# Altium integrated library Renesas Microcontroller H8.IntLib: 489 symbols (part 9 of 25)
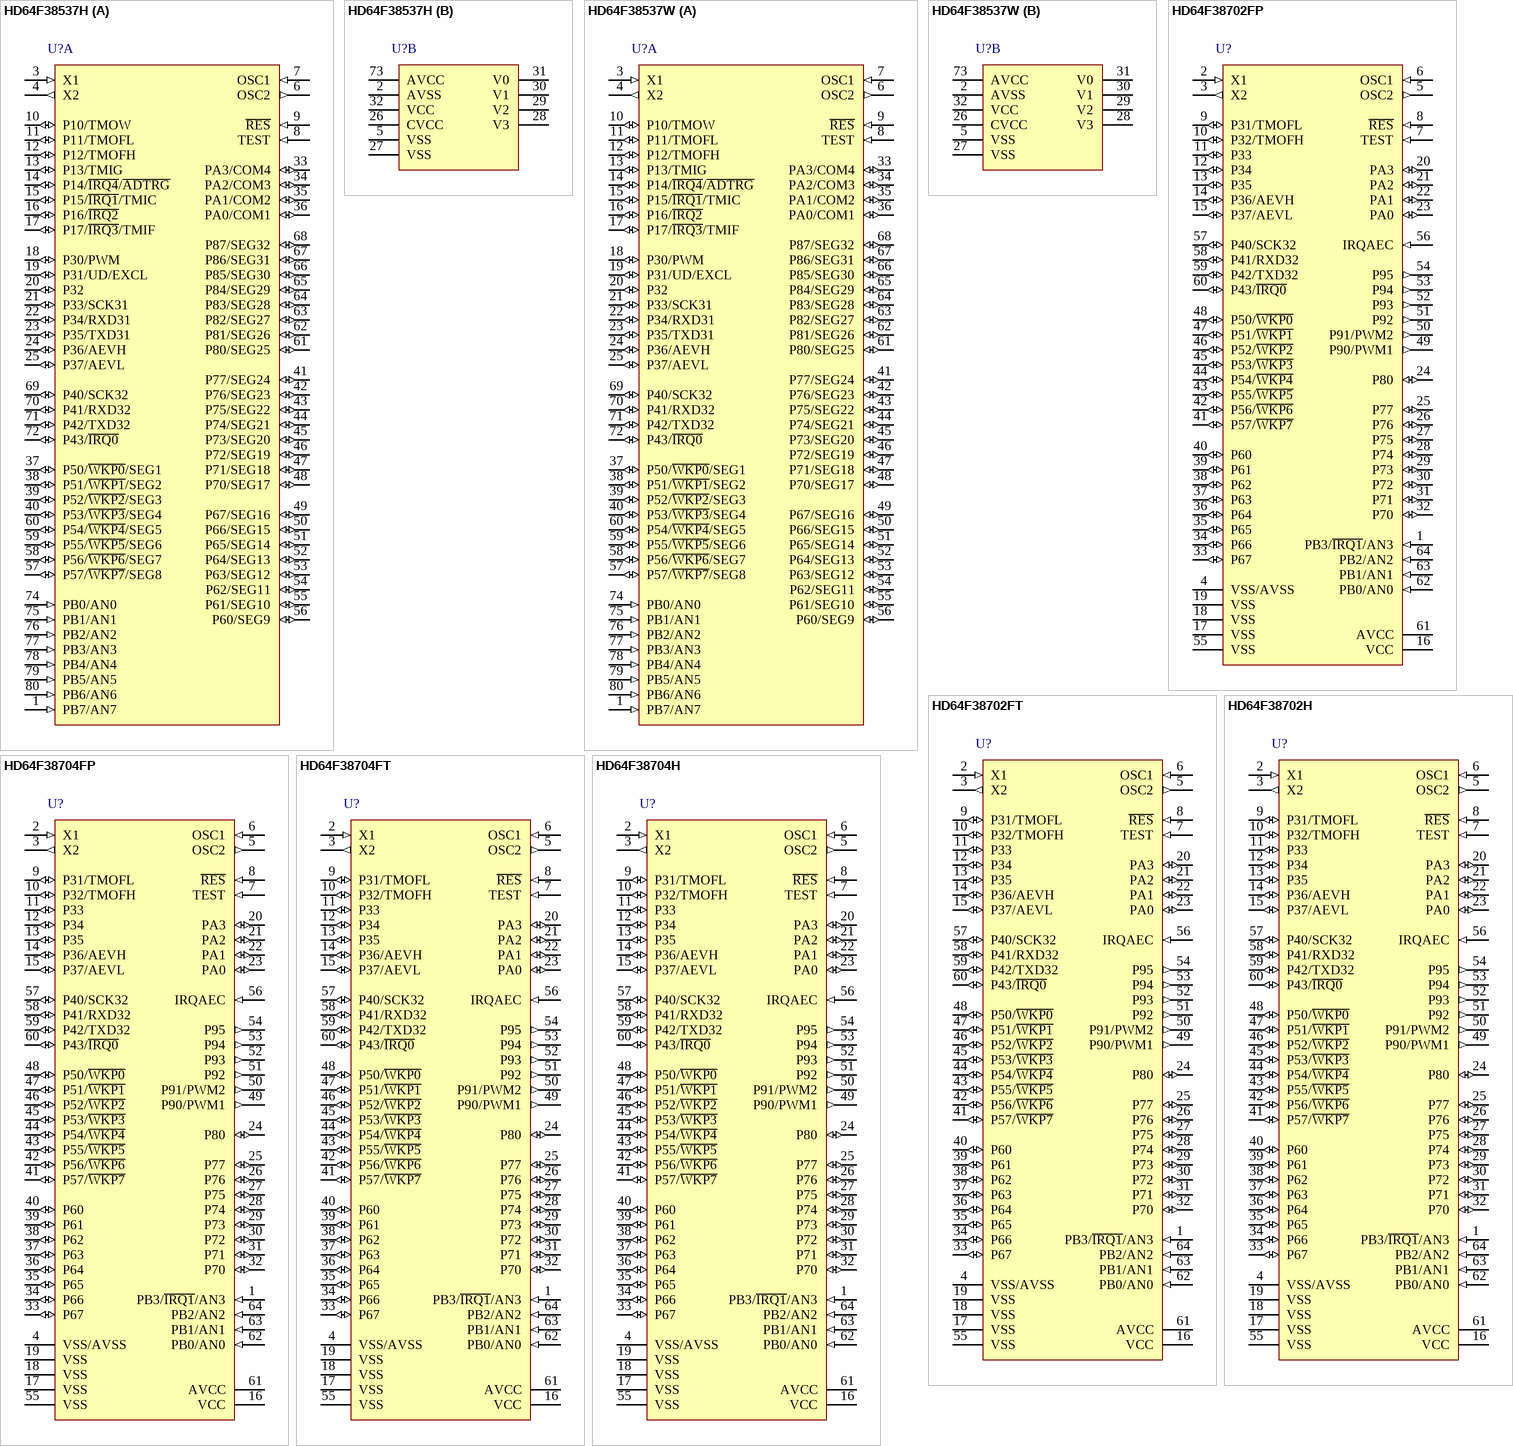
[diagram p96: symbols HD64F38537H to HD64F38704H]

## HD64F38537W
designator U?
H8 Family 32/16-bit CISC, H8/300H Super Low Power, 60K ROM, 2K RAM, 8MHz, 2.7 to 5.5V, 80-Pin QFP; Published: 28-Aug-2009; DatasheetVersion: Rev.1.00, May-2008; PackageVersion: Sep-2005; PackageReference: PTQP0080KC-A; Publisher: Altium Limited; PackageDescription: 80-Pin Plastic Thin Quad Flat Pack, 12 x 12 x 1.0 mm Body, 0.5 mm Pitch; Code_JEITA: P-TQFP80-12x12-0.50; ComponentLink1Description: Manufacturer Link; ComponentLink1URL: http://sg.renesas.com/fmwk.jsp?cnt=h8_family_landing.jsp&fp=/products/mpumcu/h8_family/; ComponentLink2Description: Datasheet; ComponentLink2URL: http://documentation.renesas.com/eng/products/mpumcu/rej09b0436_h8_38537hm.pdf; ComponentLink3Description: Packaging Specification; ComponentLink3URL: http://sg.renesas.com/media/products/common_info/package/pdf/ic/code/ptqp0080kc_a.pdf
footprint PTQP0080KC-A_N (Thin QFP, 80-Leads, Body 12x12mm, Pitch 0.5mm, IPC Medium Density)
footprint PTQP0080KC-A_L (Thin QFP, 80-Leads, Body 12x12mm, Pitch 0.5mm, IPC High Density)
footprint PTQP0080KC-A_M (Thin QFP, 80-Leads, Body 12x12mm, Pitch 0.5mm, IPC Low Density)
part A pins: 1 PB7/AN7 (in), 3 X1 (in), 4 X2 (out), 6 OSC2 (out), 7 OSC1 (in), 8 TEST (in), 9 ~{RES} (in), 10 P10/TMOW (io), 11 P11/TMOFL (io), 12 P12/TMOFH (io), 13 P13/TMIG (io), 14 P14/~{IRQ4}/~{ADTRG} (io), 15 P15/~{IRQ1}/TMIC (io), 16 P16/~{IRQ2} (io), 17 P17/~{IRQ3}/TMIF (io), 18 P30/PWM (io), 19 P31/UD/EXCL (io), 20 P32 (io), 21 P33/SCK31 (io), 22 P34/RXD31 (io), 23 P35/TXD31 (io), 24 P36/AEVH (io), 25 P37/AEVL (io), 33 PA3/COM4 (io), 34 PA2/COM3 (io), 35 PA1/COM2 (io), 36 PA0/COM1 (io), 37 P50/~{WKP0}/SEG1 (io), 38 P51/~{WKP1}/SEG2 (io), 39 P52/~{WKP2}/SEG3 (io), 40 P53/~{WKP3}/SEG4 (io), 41 P77/SEG24 (io), 42 P76/SEG23 (io), 43 P75/SEG22 (io), 44 P74/SEG21 (io), 45 P73/SEG20 (io), 46 P72/SEG19 (io), 47 P71/SEG18 (io), 48 P70/SEG17 (io), 49 P67/SEG16 (io), 50 P66/SEG15 (io), 51 P65/SEG14 (io), 52 P64/SEG13 (io), 53 P63/SEG12 (io), 54 P62/SEG11 (io), 55 P61/SEG10 (io), 56 P60/SEG9 (io), 57 P57/~{WKP7}/SEG8 (io), 58 P56/~{WKP6}/SEG7 (io), 59 P55/~{WKP5}/SEG6 (io), 60 P54/~{WKP4}/SEG5 (io), 61 P80/SEG25 (io), 62 P81/SEG26 (io), 63 P82/SEG27 (io), 64 P83/SEG28 (io), 65 P84/SEG29 (io), 66 P85/SEG30 (io), 67 P86/SEG31 (io), 68 P87/SEG32 (io), 69 P40/SCK32 (io), 70 P41/RXD32 (io), 71 P42/TXD32 (io), 72 P43/~{IRQ0} (io), 74 PB0/AN0 (in), 75 PB1/AN1 (in), 76 PB2/AN2 (in), 77 PB3/AN3 (in), 78 PB4/AN4 (in), 79 PB5/AN5 (in), 80 PB6/AN6 (in)
part B pins: 2 AVSS (power), 5 VSS (power), 26 CVCC (power), 27 VSS (power), 28 V3 (power), 29 V2 (power), 30 V1 (power), 31 V0 (power), 32 VCC (power), 73 AVCC (power)

## HD64F38702FP
designator U?
H8 Family 8-bit MCU, H8/300H Super Low Power, 16K ROM, 1K RAM, 2MHz, 2.2 to 3.6V, 64-Pin QFP; Published: 28-Aug-2009; DatasheetVersion: Rev.1.00, Dec-2007; PackageVersion: Sep-2005; PackageReference: PLQP0064KC-A; Publisher: Altium Limited; PackageDescription: 64-Pin Plastic Low Profile QFP, 10 x 10 x 1.45 mm Body, 0.5 mm Pitch; Code_JEITA: P-LQFP64-10x10-0.50; Code_IPC: SQFP50P1200X1200-64; ComponentLink1Description: Manufacturer Link; ComponentLink1URL: http://sg.renesas.com/fmwk.jsp?cnt=h8_family_landing.jsp&fp=/products/mpumcu/h8_family/; ComponentLink2Description: Datasheet; ComponentLink2URL: http://documentation.renesas.com/eng/products/mpumcu/rej09b0430_h838704hm.pdf; ComponentLink3Description: Packaging Specification; ComponentLink3URL: http://sg.renesas.com/media/products/common_info/package/pdf/ic/code/plqp0064kc_a.pdf
footprint PLQP0064KC-A_N (Shrink QFP, 64-Leads, Body 10x10mm, Pitch 0.5mm, IPC Medium Density)
footprint PLQP0064KC-A_L (Shrink QFP, 64-Leads, Body 10x10mm, Pitch 0.5mm, IPC High Density)
footprint PLQP0064KC-A_M (Shrink QFP, 64-Leads, Body 10x10mm, Pitch 0.5mm, IPC Low Density)
pins: 1 PB3/~{IRQ1}/AN3 (in), 2 X1 (in), 3 X2 (out), 4 VSS/AVSS (power), 5 OSC2 (out), 6 OSC1 (in), 7 TEST (in), 8 ~{RES} (in), 9 P31/TMOFL (io), 10 P32/TMOFH (io), 11 P33 (io), 12 P34 (io), 13 P35 (io), 14 P36/AEVH (io), 15 P37/AEVL (io), 16 VCC (power), 17 VSS (power), 18 VSS (power), 19 VSS (power), 20 PA3 (io), 21 PA2 (io), 22 PA1 (io), 23 PA0 (io), 24 P80 (io), 25 P77 (io), 26 P76 (io), 27 P75 (io), 28 P74 (io), 29 P73 (io), 30 P72 (io), 31 P71 (io), 32 P70 (io), 33 P67 (io), 34 P66 (io), 35 P65 (io), 36 P64 (io), 37 P63 (io), 38 P62 (io), 39 P61 (io), 40 P60 (io), 41 P57/~{WKP7} (io), 42 P56/~{WKP6} (io), 43 P55/~{WKP5} (io), 44 P54/~{WKP4} (io), 45 P53/~{WKP3} (io), 46 P52/~{WKP2} (io), 47 P51/~{WKP1} (io), 48 P50/~{WKP0} (io), 49 P90/PWM1 (out), 50 P91/PWM2 (out), 51 P92 (out), 52 P93 (out), 53 P94 (out), 54 P95 (out), 55 VSS (power), 56 IRQAEC (in), 57 P40/SCK32 (io), 58 P41/RXD32 (io), 59 P42/TXD32 (io), 60 P43/~{IRQ0} (io), 61 AVCC (power), 62 PB0/AN0 (in), 63 PB1/AN1 (in), 64 PB2/AN2 (in)

## HD64F38702FT
designator U?
H8 Family 8-bit MCU, H8/300H Super Low Power, 16K ROM, 1K RAM, 2MHz, 2.2 to 3.6V, 64-Pin QFN; Published: 28-Aug-2009; DatasheetVersion: Rev.1.00, Dec-2007; PackageVersion: Jun-2008; PackageReference: PVQN0064LB-A; Publisher: Altium Limited; PackageDescription: 64-Pin Plastic Very Thin QFN, 8 x 8 X 0.89 mm Body, 0.4 mm Pitch; Code_JEITA: P-VQFN64-8x8-0.40; ComponentLink1Description: Manufacturer Link; ComponentLink1URL: http://sg.renesas.com/fmwk.jsp?cnt=h8_family_landing.jsp&fp=/products/mpumcu/h8_family/; ComponentLink2Description: Datasheet; ComponentLink2URL: http://documentation.renesas.com/eng/products/mpumcu/rej09b0430_h838704hm.pdf; ComponentLink3Description: Packaging Specification; ComponentLink3URL: http://sg.renesas.com/media/products/common_info/package/pdf/ic/code/pvqn0064lb_a.pdf
footprint PVQN0064LB-A_N (QFN, 64-Leads, Body 8x8 mm, Pitch 0.4mm, IPC Medium Density)
footprint PVQN0064LB-A_L (QFN, 64-Leads, Body 8x8 mm, Pitch 0.4mm, IPC High Density)
footprint PVQN0064LB-A_M (QFN, 64-Leads, Body 8x8 mm, Pitch 0.4mm, IPC Low Density)
pins: 1 PB3/~{IRQ1}/AN3 (in), 2 X1 (in), 3 X2 (out), 4 VSS/AVSS (power), 5 OSC2 (out), 6 OSC1 (in), 7 TEST (in), 8 ~{RES} (in), 9 P31/TMOFL (io), 10 P32/TMOFH (io), 11 P33 (io), 12 P34 (io), 13 P35 (io), 14 P36/AEVH (io), 15 P37/AEVL (io), 16 VCC (power), 17 VSS (power), 18 VSS (power), 19 VSS (power), 20 PA3 (io), 21 PA2 (io), 22 PA1 (io), 23 PA0 (io), 24 P80 (io), 25 P77 (io), 26 P76 (io), 27 P75 (io), 28 P74 (io), 29 P73 (io), 30 P72 (io), 31 P71 (io), 32 P70 (io), 33 P67 (io), 34 P66 (io), 35 P65 (io), 36 P64 (io), 37 P63 (io), 38 P62 (io), 39 P61 (io), 40 P60 (io), 41 P57/~{WKP7} (io), 42 P56/~{WKP6} (io), 43 P55/~{WKP5} (io), 44 P54/~{WKP4} (io), 45 P53/~{WKP3} (io), 46 P52/~{WKP2} (io), 47 P51/~{WKP1} (io), 48 P50/~{WKP0} (io), 49 P90/PWM1 (out), 50 P91/PWM2 (out), 51 P92 (out), 52 P93 (out), 53 P94 (out), 54 P95 (out), 55 VSS (power), 56 IRQAEC (in), 57 P40/SCK32 (io), 58 P41/RXD32 (io), 59 P42/TXD32 (io), 60 P43/~{IRQ0} (io), 61 AVCC (power), 62 PB0/AN0 (in), 63 PB1/AN1 (in), 64 PB2/AN2 (in)

## HD64F38702H
designator U?
H8 Family 8-bit MCU, H8/300H Super Low Power, 16K ROM, 1K RAM, 2MHz, 2.2 to 3.6V, 64-Pin QFP; Published: 28-Aug-2009; DatasheetVersion: Rev.1.00, Dec-2007; PackageVersion: Sep-2005; PackageReference: PRQP0064GB-A; Publisher: Altium Limited; PackageDescription: 64-Pin Plastic Quad Flat Pack, 14 x 14 x 2.7 mm Body, 0.8 mm Pitch; Code_JEITA: P-QFP64-14x14-0.80; ComponentLink1Description: Manufacturer Link; ComponentLink1URL: http://sg.renesas.com/fmwk.jsp?cnt=h8_family_landing.jsp&fp=/products/mpumcu/h8_family/; ComponentLink2Description: Datasheet; ComponentLink2URL: http://documentation.renesas.com/eng/products/mpumcu/rej09b0430_h838704hm.pdf; ComponentLink3Description: Packaging Specification; ComponentLink3URL: http://sg.renesas.com/media/products/common_info/package/pdf/ic/code/prqp0064gb_a.pdf
footprint PRQP0064GB-A_N (QFP, 64-Leads, Body 14x14mm, Pitch 0.8mm, IPC Medium Density)
footprint PRQP0064GB-A_L (QFP, 64-Leads, Body 14x14mm, Pitch 0.8mm, IPC High Density)
footprint PRQP0064GB-A_M (QFP, 64-Leads, Body 14x14mm, Pitch 0.8mm, IPC Low Density)
pins: 1 PB3/~{IRQ1}/AN3 (in), 2 X1 (in), 3 X2 (out), 4 VSS/AVSS (power), 5 OSC2 (out), 6 OSC1 (in), 7 TEST (in), 8 ~{RES} (in), 9 P31/TMOFL (io), 10 P32/TMOFH (io), 11 P33 (io), 12 P34 (io), 13 P35 (io), 14 P36/AEVH (io), 15 P37/AEVL (io), 16 VCC (power), 17 VSS (power), 18 VSS (power), 19 VSS (power), 20 PA3 (io), 21 PA2 (io), 22 PA1 (io), 23 PA0 (io), 24 P80 (io), 25 P77 (io), 26 P76 (io), 27 P75 (io), 28 P74 (io), 29 P73 (io), 30 P72 (io), 31 P71 (io), 32 P70 (io), 33 P67 (io), 34 P66 (io), 35 P65 (io), 36 P64 (io), 37 P63 (io), 38 P62 (io), 39 P61 (io), 40 P60 (io), 41 P57/~{WKP7} (io), 42 P56/~{WKP6} (io), 43 P55/~{WKP5} (io), 44 P54/~{WKP4} (io), 45 P53/~{WKP3} (io), 46 P52/~{WKP2} (io), 47 P51/~{WKP1} (io), 48 P50/~{WKP0} (io), 49 P90/PWM1 (out), 50 P91/PWM2 (out), 51 P92 (out), 52 P93 (out), 53 P94 (out), 54 P95 (out), 55 VSS (power), 56 IRQAEC (in), 57 P40/SCK32 (io), 58 P41/RXD32 (io), 59 P42/TXD32 (io), 60 P43/~{IRQ0} (io), 61 AVCC (power), 62 PB0/AN0 (in), 63 PB1/AN1 (in), 64 PB2/AN2 (in)

## HD64F38704FP
designator U?
H8 Family 8-bit MCU, H8/300H Super Low Power, 32K ROM, 1K RAM, 2MHz, 2.2 to 3.6V, 64-Pin QFP; Published: 28-Aug-2009; DatasheetVersion: Rev.1.00, Dec-2007; PackageVersion: Sep-2005; PackageReference: PLQP0064KC-A; Publisher: Altium Limited; PackageDescription: 64-Pin Plastic Low Profile QFP, 10 x 10 x 1.45 mm Body, 0.5 mm Pitch; Code_JEITA: P-LQFP64-10x10-0.50; Code_IPC: SQFP50P1200X1200-64; ComponentLink1Description: Manufacturer Link; ComponentLink1URL: http://sg.renesas.com/fmwk.jsp?cnt=h8_family_landing.jsp&fp=/products/mpumcu/h8_family/; ComponentLink2Description: Datasheet; ComponentLink2URL: http://documentation.renesas.com/eng/products/mpumcu/rej09b0430_h838704hm.pdf; ComponentLink3Description: Packaging Specification; ComponentLink3URL: http://sg.renesas.com/media/products/common_info/package/pdf/ic/code/plqp0064kc_a.pdf
footprint PLQP0064KC-A_N (Shrink QFP, 64-Leads, Body 10x10mm, Pitch 0.5mm, IPC Medium Density)
footprint PLQP0064KC-A_L (Shrink QFP, 64-Leads, Body 10x10mm, Pitch 0.5mm, IPC High Density)
footprint PLQP0064KC-A_M (Shrink QFP, 64-Leads, Body 10x10mm, Pitch 0.5mm, IPC Low Density)
pins: 1 PB3/~{IRQ1}/AN3 (in), 2 X1 (in), 3 X2 (out), 4 VSS/AVSS (power), 5 OSC2 (out), 6 OSC1 (in), 7 TEST (in), 8 ~{RES} (in), 9 P31/TMOFL (io), 10 P32/TMOFH (io), 11 P33 (io), 12 P34 (io), 13 P35 (io), 14 P36/AEVH (io), 15 P37/AEVL (io), 16 VCC (power), 17 VSS (power), 18 VSS (power), 19 VSS (power), 20 PA3 (io), 21 PA2 (io), 22 PA1 (io), 23 PA0 (io), 24 P80 (io), 25 P77 (io), 26 P76 (io), 27 P75 (io), 28 P74 (io), 29 P73 (io), 30 P72 (io), 31 P71 (io), 32 P70 (io), 33 P67 (io), 34 P66 (io), 35 P65 (io), 36 P64 (io), 37 P63 (io), 38 P62 (io), 39 P61 (io), 40 P60 (io), 41 P57/~{WKP7} (io), 42 P56/~{WKP6} (io), 43 P55/~{WKP5} (io), 44 P54/~{WKP4} (io), 45 P53/~{WKP3} (io), 46 P52/~{WKP2} (io), 47 P51/~{WKP1} (io), 48 P50/~{WKP0} (io), 49 P90/PWM1 (out), 50 P91/PWM2 (out), 51 P92 (out), 52 P93 (out), 53 P94 (out), 54 P95 (out), 55 VSS (power), 56 IRQAEC (in), 57 P40/SCK32 (io), 58 P41/RXD32 (io), 59 P42/TXD32 (io), 60 P43/~{IRQ0} (io), 61 AVCC (power), 62 PB0/AN0 (in), 63 PB1/AN1 (in), 64 PB2/AN2 (in)

## HD64F38704FT
designator U?
H8 Family 8-bit MCU, H8/300H Super Low Power, 32K ROM, 1K RAM, 2MHz, 2.2 to 3.6V, 64-Pin QFN; Published: 28-Aug-2009; DatasheetVersion: Rev.1.00, Dec-2007; PackageVersion: Jun-2008; PackageReference: PVQN0064LB-A; Publisher: Altium Limited; PackageDescription: 64-Pin Plastic Very Thin QFN, 8 x 8 X 0.89 mm Body, 0.4 mm Pitch; Code_JEITA: P-VQFN64-8x8-0.40; ComponentLink1Description: Manufacturer Link; ComponentLink1URL: http://sg.renesas.com/fmwk.jsp?cnt=h8_family_landing.jsp&fp=/products/mpumcu/h8_family/; ComponentLink2Description: Datasheet; ComponentLink2URL: http://documentation.renesas.com/eng/products/mpumcu/rej09b0430_h838704hm.pdf; ComponentLink3Description: Packaging Specification; ComponentLink3URL: http://sg.renesas.com/media/products/common_info/package/pdf/ic/code/pvqn0064lb_a.pdf
footprint PVQN0064LB-A_N (QFN, 64-Leads, Body 8x8 mm, Pitch 0.4mm, IPC Medium Density)
footprint PVQN0064LB-A_L (QFN, 64-Leads, Body 8x8 mm, Pitch 0.4mm, IPC High Density)
footprint PVQN0064LB-A_M (QFN, 64-Leads, Body 8x8 mm, Pitch 0.4mm, IPC Low Density)
pins: 1 PB3/~{IRQ1}/AN3 (in), 2 X1 (in), 3 X2 (out), 4 VSS/AVSS (power), 5 OSC2 (out), 6 OSC1 (in), 7 TEST (in), 8 ~{RES} (in), 9 P31/TMOFL (io), 10 P32/TMOFH (io), 11 P33 (io), 12 P34 (io), 13 P35 (io), 14 P36/AEVH (io), 15 P37/AEVL (io), 16 VCC (power), 17 VSS (power), 18 VSS (power), 19 VSS (power), 20 PA3 (io), 21 PA2 (io), 22 PA1 (io), 23 PA0 (io), 24 P80 (io), 25 P77 (io), 26 P76 (io), 27 P75 (io), 28 P74 (io), 29 P73 (io), 30 P72 (io), 31 P71 (io), 32 P70 (io), 33 P67 (io), 34 P66 (io), 35 P65 (io), 36 P64 (io), 37 P63 (io), 38 P62 (io), 39 P61 (io), 40 P60 (io), 41 P57/~{WKP7} (io), 42 P56/~{WKP6} (io), 43 P55/~{WKP5} (io), 44 P54/~{WKP4} (io), 45 P53/~{WKP3} (io), 46 P52/~{WKP2} (io), 47 P51/~{WKP1} (io), 48 P50/~{WKP0} (io), 49 P90/PWM1 (out), 50 P91/PWM2 (out), 51 P92 (out), 52 P93 (out), 53 P94 (out), 54 P95 (out), 55 VSS (power), 56 IRQAEC (in), 57 P40/SCK32 (io), 58 P41/RXD32 (io), 59 P42/TXD32 (io), 60 P43/~{IRQ0} (io), 61 AVCC (power), 62 PB0/AN0 (in), 63 PB1/AN1 (in), 64 PB2/AN2 (in)

## HD64F38704H
designator U?
H8 Family 8-bit MCU, H8/300H Super Low Power, 32K ROM, 1K RAM, 2MHz, 2.2 to 3.6V, 64-Pin QFP; Published: 28-Aug-2009; DatasheetVersion: Rev.1.00, Dec-2007; PackageVersion: Sep-2005; PackageReference: PRQP0064GB-A; Publisher: Altium Limited; PackageDescription: 64-Pin Plastic Quad Flat Pack, 14 x 14 x 2.7 mm Body, 0.8 mm Pitch; Code_JEITA: P-QFP64-14x14-0.80; ComponentLink1Description: Manufacturer Link; ComponentLink1URL: http://sg.renesas.com/fmwk.jsp?cnt=h8_family_landing.jsp&fp=/products/mpumcu/h8_family/; ComponentLink2Description: Datasheet; ComponentLink2URL: http://documentation.renesas.com/eng/products/mpumcu/rej09b0430_h838704hm.pdf; ComponentLink3Description: Packaging Specification; ComponentLink3URL: http://sg.renesas.com/media/products/common_info/package/pdf/ic/code/prqp0064gb_a.pdf
footprint PRQP0064GB-A_N (QFP, 64-Leads, Body 14x14mm, Pitch 0.8mm, IPC Medium Density)
footprint PRQP0064GB-A_L (QFP, 64-Leads, Body 14x14mm, Pitch 0.8mm, IPC High Density)
footprint PRQP0064GB-A_M (QFP, 64-Leads, Body 14x14mm, Pitch 0.8mm, IPC Low Density)
pins: 1 PB3/~{IRQ1}/AN3 (in), 2 X1 (in), 3 X2 (out), 4 VSS/AVSS (power), 5 OSC2 (out), 6 OSC1 (in), 7 TEST (in), 8 ~{RES} (in), 9 P31/TMOFL (io), 10 P32/TMOFH (io), 11 P33 (io), 12 P34 (io), 13 P35 (io), 14 P36/AEVH (io), 15 P37/AEVL (io), 16 VCC (power), 17 VSS (power), 18 VSS (power), 19 VSS (power), 20 PA3 (io), 21 PA2 (io), 22 PA1 (io), 23 PA0 (io), 24 P80 (io), 25 P77 (io), 26 P76 (io), 27 P75 (io), 28 P74 (io), 29 P73 (io), 30 P72 (io), 31 P71 (io), 32 P70 (io), 33 P67 (io), 34 P66 (io), 35 P65 (io), 36 P64 (io), 37 P63 (io), 38 P62 (io), 39 P61 (io), 40 P60 (io), 41 P57/~{WKP7} (io), 42 P56/~{WKP6} (io), 43 P55/~{WKP5} (io), 44 P54/~{WKP4} (io), 45 P53/~{WKP3} (io), 46 P52/~{WKP2} (io), 47 P51/~{WKP1} (io), 48 P50/~{WKP0} (io), 49 P90/PWM1 (out), 50 P91/PWM2 (out), 51 P92 (out), 52 P93 (out), 53 P94 (out), 54 P95 (out), 55 VSS (power), 56 IRQAEC (in), 57 P40/SCK32 (io), 58 P41/RXD32 (io), 59 P42/TXD32 (io), 60 P43/~{IRQ0} (io), 61 AVCC (power), 62 PB0/AN0 (in), 63 PB1/AN1 (in), 64 PB2/AN2 (in)

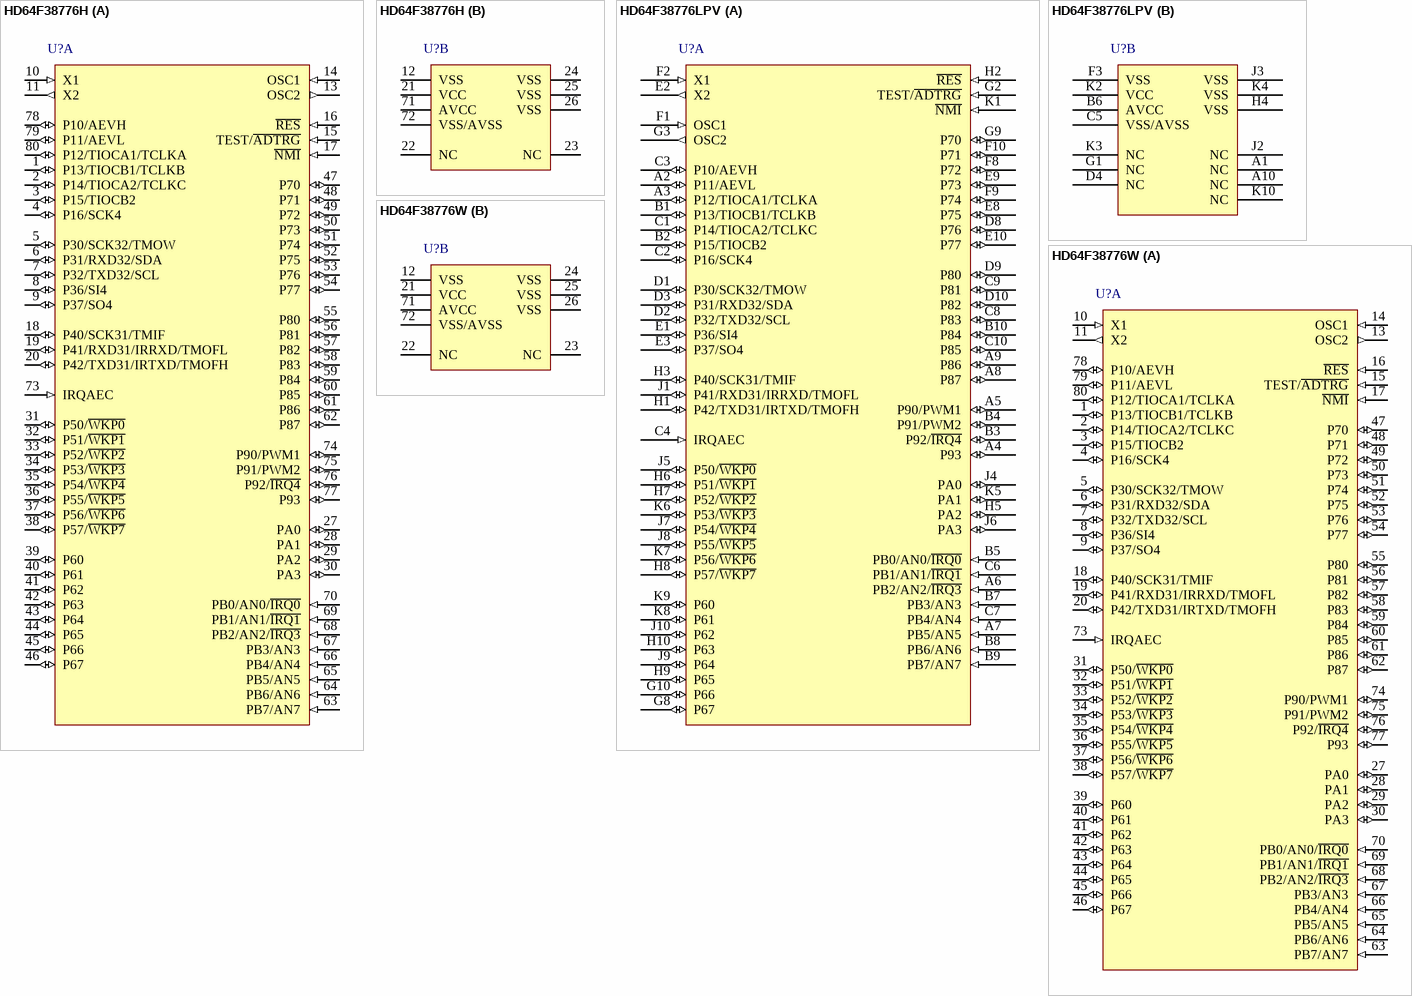
[diagram p29: symbols HD64F38776H to HD64F38776W]

## HD64F38776H
designator U?
H8 Family 32/16-bit CISC, H8/300H Super Low Power, 48K ROM, 2K RAM, 4.2MHz, 1.8 to 3.6V, 80-Pin QFP; Published: 28-Aug-2009; DatasheetVersion: Rev.1.00, Dec-2006; PackageVersion: Sep-2005; PackageReference: PRQP0080JB-A; Publisher: Altium Limited; PackageDescription: 80-Pin Plastic Quad Flat Pack, 14 x 14 x 2.7 mm Body, 0.65 mm Pitch; Code_JEITA: P-QFP80-14x14-0.65; Code_IPC: QFP65P1720X1720-80; ComponentLink1Description: Manufacturer Link; ComponentLink1URL: http://sg.renesas.com/fmwk.jsp?cnt=h8_family_landing.jsp&fp=/products/mpumcu/h8_family/; ComponentLink2Description: Datasheet; ComponentLink2URL: http://documentation.renesas.com/eng/products/mpumcu/rej09b0348_h838776hm.pdf; ComponentLink3Description: Packaging Specification; ComponentLink3URL: http://sg.renesas.com/media/products/common_info/package/pdf/ic/code/prqp0080jb_a.pdf
footprint PRQP0080JB-A_N (QFP, 80-Leads, Body 14x14mm, Pitch 0.65mm, IPC Medium Density)
footprint PRQP0080JB-A_L (QFP, 80-Leads, Body 14x14mm, Pitch 0.65mm, IPC High Density)
footprint PRQP0080JB-A_M (QFP, 80-Leads, Body 14x14mm, Pitch 0.65mm, IPC Low Density)
part A pins: 1 P13/TIOCB1/TCLKB (io), 2 P14/TIOCA2/TCLKC (io), 3 P15/TIOCB2 (io), 4 P16/SCK4 (io), 5 P30/SCK32/TMOW (io), 6 P31/RXD32/SDA (io), 7 P32/TXD32/SCL (io), 8 P36/SI4 (io), 9 P37/SO4 (io), 10 X1 (in), 11 X2 (out), 13 OSC2 (out), 14 OSC1 (in), 15 TEST/~{ADTRG} (in), 16 ~{RES} (in), 17 ~{NMI} (in), 18 P40/SCK31/TMIF (io), 19 P41/RXD31/IRRXD/TMOFL (io), 20 P42/TXD31/IRTXD/TMOFH (io), 27 PA0 (io), 28 PA1 (io), 29 PA2 (io), 30 PA3 (io), 31 P50/~{WKP0} (io), 32 P51/~{WKP1} (io), 33 P52/~{WKP2} (io), 34 P53/~{WKP3} (io), 35 P54/~{WKP4} (io), 36 P55/~{WKP5} (io), 37 P56/~{WKP6} (io), 38 P57/~{WKP7} (io), 39 P60 (io), 40 P61 (io), 41 P62 (io), 42 P63 (io), 43 P64 (io), 44 P65 (io), 45 P66 (io), 46 P67 (io), 47 P70 (io), 48 P71 (io), 49 P72 (io), 50 P73 (io), 51 P74 (io), 52 P75 (io), 53 P76 (io), 54 P77 (io), 55 P80 (io), 56 P81 (io), 57 P82 (io), 58 P83 (io), 59 P84 (io), 60 P85 (io), 61 P86 (io), 62 P87 (io), 63 PB7/AN7 (in), 64 PB6/AN6 (in), 65 PB5/AN5 (in), 66 PB4/AN4 (in), 67 PB3/AN3 (in), 68 PB2/AN2/~{IRQ3} (in), 69 PB1/AN1/~{IRQ1} (in), 70 PB0/AN0/~{IRQ0} (in), 73 IRQAEC (in), 74 P90/PWM1 (io), 75 P91/PWM2 (io), 76 P92/~{IRQ4} (io), 77 P93 (io), 78 P10/AEVH (io), 79 P11/AEVL (io), 80 P12/TIOCA1/TCLKA (io)
part B pins: 12 VSS (power), 21 VCC (power), 22 NC (power), 23 NC (power), 24 VSS (power), 25 VSS (power), 26 VSS (power), 71 AVCC (power), 72 VSS/AVSS (power)

## HD64F38776LPV
designator U?
H8 Family 32/16-bit CISC, H8/300H Super Low Power, 48K ROM, 2K RAM, 4.2MHz, 1.8 to 3.6V, 85-Ball BGA; Published: 28-Aug-2009; DatasheetVersion: Rev.1.00, Dec-2006; PackageVersion: Sep-2005; PackageReference: PTLG0085JA-A; Publisher: Altium Limited; PackageDescription: 85-Ball Plastic Thin Fine-Pitch BGA, 7 x 7 mm Body, 0.65 mm Pitch; Code_JEITA: P-TFLGA85-7x7-0.65; ComponentLink1Description: Manufacturer Link; ComponentLink1URL: http://sg.renesas.com/fmwk.jsp?cnt=h8_family_landing.jsp&fp=/products/mpumcu/h8_family/; ComponentLink2Description: Datasheet; ComponentLink2URL: http://documentation.renesas.com/eng/products/mpumcu/rej09b0348_h838776hm.pdf; ComponentLink3Description: Packaging Specification; ComponentLink3URL: http://sg.renesas.com/media/products/common_info/package/pdf/ic/code/ptlg0085ja_a.pdf
footprint PTLG0085JA-A (BGA, 85-Leads, Body 7x7mm, Pitch 0.65mm)
part A pins: A2 P11/AEVL (io), A3 P12/TIOCA1/TCLKA (io), A4 P93 (io), A5 P90/PWM1 (io), A6 PB2/AN2/~{IRQ3} (in), A7 PB5/AN5 (in), A8 P87 (io), A9 P86 (io), B1 P13/TIOCB1/TCLKB (io), B2 P15/TIOCB2 (io), B3 P92/~{IRQ4} (io), B4 P91/PWM2 (io), B5 PB0/AN0/~{IRQ0} (in), B7 PB3/AN3 (in), B8 PB6/AN6 (in), B9 PB7/AN7 (in), B10 P84 (io), C1 P14/TIOCA2/TCLKC (io), C2 P16/SCK4 (io), C3 P10/AEVH (io), C4 IRQAEC (in), C6 PB1/AN1/~{IRQ1} (in), C7 PB4/AN4 (in), C8 P83 (io), C9 P81 (io), C10 P85 (io), D1 P30/SCK32/TMOW (io), D2 P32/TXD32/SCL (io), D3 P31/RXD32/SDA (io), D8 P76 (io), D9 P80 (io), D10 P82 (io), E1 P36/SI4 (io), E2 X2 (out), E3 P37/SO4 (io), E8 P75 (io), E9 P73 (io), E10 P77 (io), F1 OSC1 (in), F2 X1 (in), F8 P72 (io), F9 P74 (io), F10 P71 (io), G2 TEST/~{ADTRG} (in), G3 OSC2 (out), G8 P67 (io), G9 P70 (io), G10 P66 (io), H1 P42/TXD31/IRTXD/TMOFH (io), H2 ~{RES} (in), H3 P40/SCK31/TMIF (io), H5 PA2 (io), H6 P51/~{WKP1} (io), H7 P52/~{WKP2} (io), H8 P57/~{WKP7} (io), H9 P65 (io), H10 P63 (io), J1 P41/RXD31/IRRXD/TMOFL (io), J4 PA0 (io), J5 P50/~{WKP0} (io), J6 PA3 (io), J7 P54/~{WKP4} (io), J8 P55/~{WKP5} (io), J9 P64 (io), J10 P62 (io), K1 ~{NMI} (in), K5 PA1 (io), K6 P53/~{WKP3} (io), K7 P56/~{WKP6} (io), K8 P61 (io), K9 P60 (io)
part B pins: A1 NC, A10 NC, B6 AVCC (power), C5 VSS/AVSS (power), D4 NC, F3 VSS (power), G1 NC, H4 VSS (power), J2 NC (power), J3 VSS (power), K2 VCC (power), K3 NC (power), K4 VSS (power), K10 NC

## HD64F38776W
designator U?
H8 Family 32/16-bit CISC, H8/300H Super Low Power, 48K ROM, 2K RAM, 4.2MHz, 1.8 to 3.6V, 80-Pin QFP; Published: 28-Aug-2009; DatasheetVersion: Rev.1.00, Dec-2006; PackageVersion: Sep-2005; PackageReference: PTQP0080KC-A; Publisher: Altium Limited; PackageDescription: 80-Pin Plastic Thin Quad Flat Pack, 12 x 12 x 1.0 mm Body, 0.5 mm Pitch; Code_JEITA: P-TQFP80-12x12-0.50; ComponentLink1Description: Manufacturer Link; ComponentLink1URL: http://sg.renesas.com/fmwk.jsp?cnt=h8_family_landing.jsp&fp=/products/mpumcu/h8_family/; ComponentLink2Description: Datasheet; ComponentLink2URL: http://documentation.renesas.com/eng/products/mpumcu/rej09b0348_h838776hm.pdf; ComponentLink3Description: Packaging Specification; ComponentLink3URL: http://sg.renesas.com/media/products/common_info/package/pdf/ic/code/ptqp0080kc_a.pdf
footprint PTQP0080KC-A_N (Thin QFP, 80-Leads, Body 12x12mm, Pitch 0.5mm, IPC Medium Density)
footprint PTQP0080KC-A_L (Thin QFP, 80-Leads, Body 12x12mm, Pitch 0.5mm, IPC High Density)
footprint PTQP0080KC-A_M (Thin QFP, 80-Leads, Body 12x12mm, Pitch 0.5mm, IPC Low Density)
part A pins: 1 P13/TIOCB1/TCLKB (io), 2 P14/TIOCA2/TCLKC (io), 3 P15/TIOCB2 (io), 4 P16/SCK4 (io), 5 P30/SCK32/TMOW (io), 6 P31/RXD32/SDA (io), 7 P32/TXD32/SCL (io), 8 P36/SI4 (io), 9 P37/SO4 (io), 10 X1 (in), 11 X2 (out), 13 OSC2 (out), 14 OSC1 (in), 15 TEST/~{ADTRG} (in), 16 ~{RES} (in), 17 ~{NMI} (in), 18 P40/SCK31/TMIF (io), 19 P41/RXD31/IRRXD/TMOFL (io), 20 P42/TXD31/IRTXD/TMOFH (io), 27 PA0 (io), 28 PA1 (io), 29 PA2 (io), 30 PA3 (io), 31 P50/~{WKP0} (io), 32 P51/~{WKP1} (io), 33 P52/~{WKP2} (io), 34 P53/~{WKP3} (io), 35 P54/~{WKP4} (io), 36 P55/~{WKP5} (io), 37 P56/~{WKP6} (io), 38 P57/~{WKP7} (io), 39 P60 (io), 40 P61 (io), 41 P62 (io), 42 P63 (io), 43 P64 (io), 44 P65 (io), 45 P66 (io), 46 P67 (io), 47 P70 (io), 48 P71 (io), 49 P72 (io), 50 P73 (io), 51 P74 (io), 52 P75 (io), 53 P76 (io), 54 P77 (io), 55 P80 (io), 56 P81 (io), 57 P82 (io), 58 P83 (io), 59 P84 (io), 60 P85 (io), 61 P86 (io), 62 P87 (io), 63 PB7/AN7 (in), 64 PB6/AN6 (in), 65 PB5/AN5 (in), 66 PB4/AN4 (in), 67 PB3/AN3 (in), 68 PB2/AN2/~{IRQ3} (in), 69 PB1/AN1/~{IRQ1} (in), 70 PB0/AN0/~{IRQ0} (in), 73 IRQAEC (in), 74 P90/PWM1 (io), 75 P91/PWM2 (io), 76 P92/~{IRQ4} (io), 77 P93 (io), 78 P10/AEVH (io), 79 P11/AEVL (io), 80 P12/TIOCA1/TCLKA (io)
part B pins: 12 VSS (power), 21 VCC (power), 22 NC (power), 23 NC (power), 24 VSS (power), 25 VSS (power), 26 VSS (power), 71 AVCC (power), 72 VSS/AVSS (power)

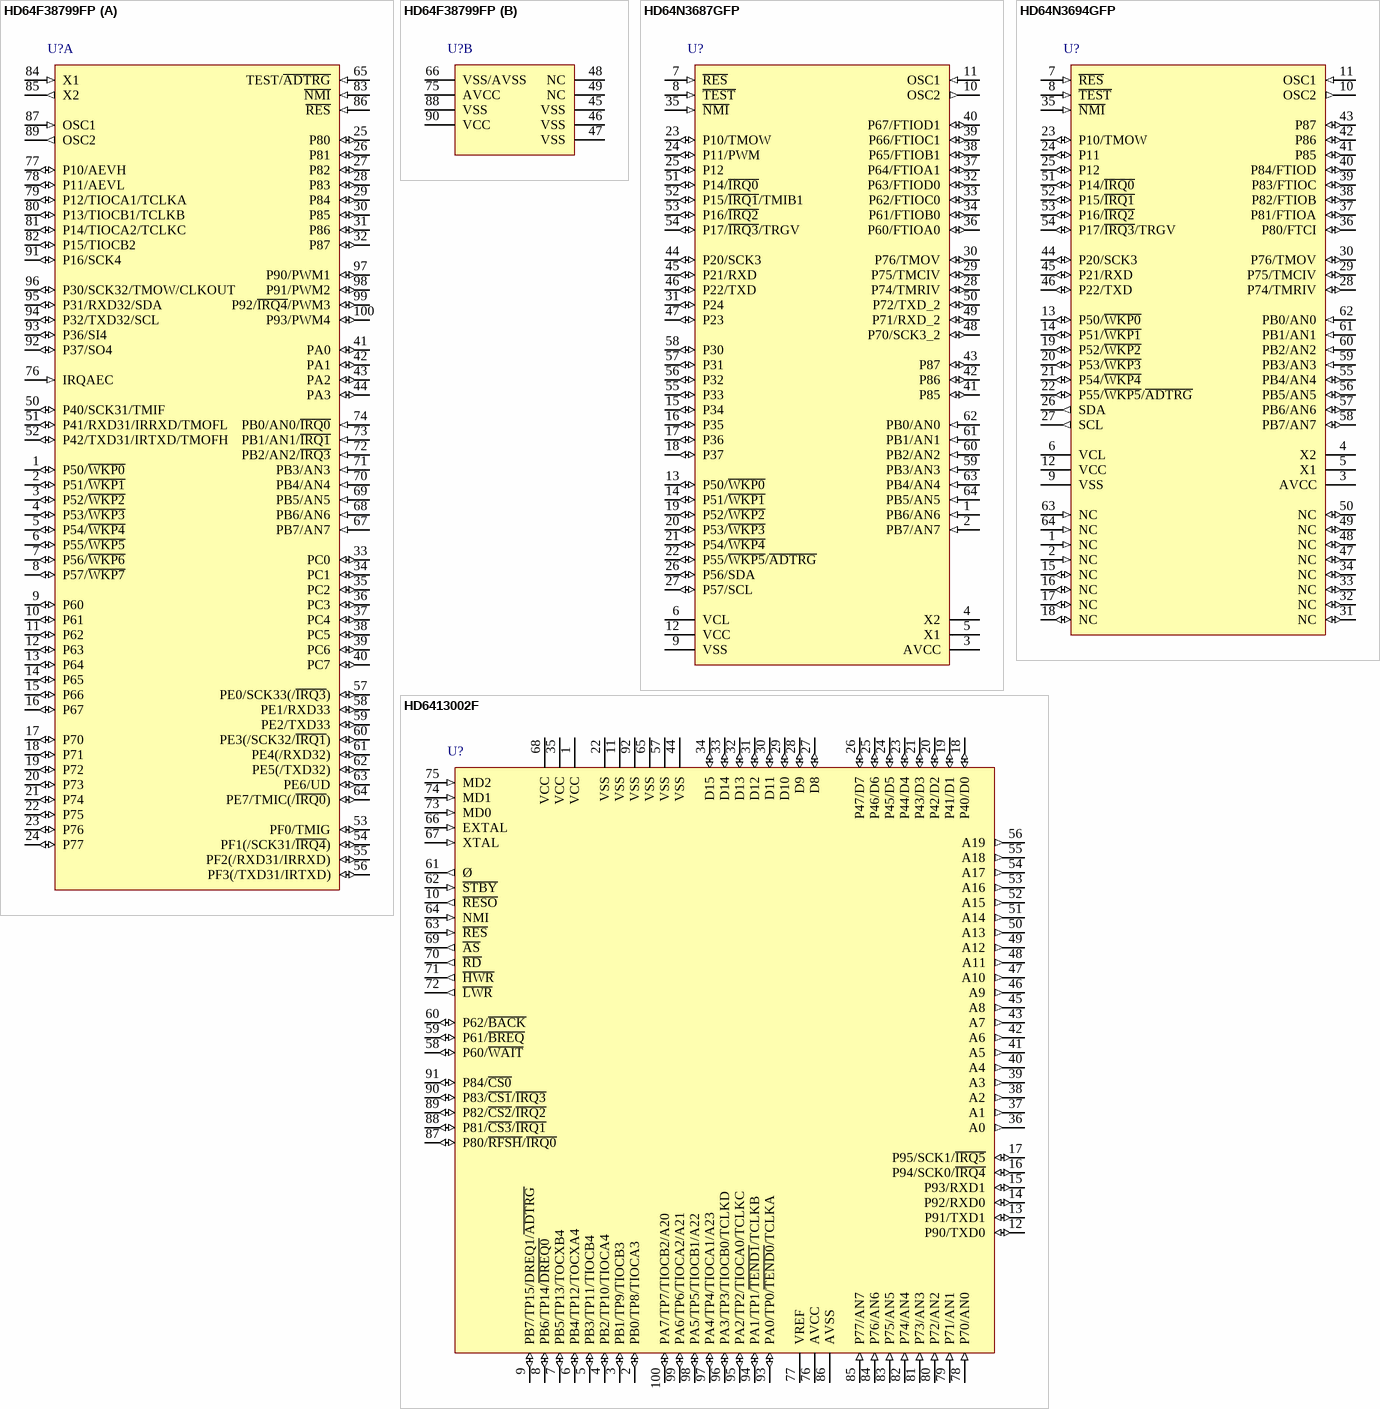
[diagram p30: symbols HD64F38799FP to HD6413002F]

## HD64F38799FP
designator U?
H8 Family 32/16-bit CISC, H8/300H Super Low Power, 128K ROM, 4K RAM, 4.2MHz, 1.8 to 3.6V, 100-Pin QFP; Published: 28-Aug-2009; DatasheetVersion: Rev.1.00, Jul-2007; PackageVersion: Sep-2005; PackageReference: PLQP0100KB-A; Publisher: Altium Limited; PackageDescription: 100-Pin Plastic Low Profile QFP, 14 x 14 x 1.4 mm Body, 0.5 mm Pitch; Code_JEITA: P-LQFP100-14x14-0.50; Code_IPC: SQFP50P1600X1600-100; ComponentLink1Description: Manufacturer Link; ComponentLink1URL: http://sg.renesas.com/fmwk.jsp?cnt=h8_family_landing.jsp&fp=/products/mpumcu/h8_family/; ComponentLink2Description: Datasheet; ComponentLink2URL: http://documentation.renesas.com/eng/products/mpumcu/rej09b0380_h838799hm.pdf; ComponentLink3Description: Packaging Specification; ComponentLink3URL: http://sg.renesas.com/media/products/common_info/package/pdf/ic/code/plqp0100kb_a.pdf
footprint PLQP0100KB-A_N (Shrink QFP, 100-Leads, Body 14x14mm, Pitch 0.5mm, IPC Medium Density)
footprint PLQP0100KB-A_L (Shrink QFP, 100-Leads, Body 14x14mm, Pitch 0.5mm, IPC High Density)
footprint PLQP0100KB-A_M (Shrink QFP, 100-Leads, Body 14x14mm, Pitch 0.5mm, IPC Low Density)
part A pins: 1 P50/~{WKP0} (io), 2 P51/~{WKP1} (io), 3 P52/~{WKP2} (io), 4 P53/~{WKP3} (io), 5 P54/~{WKP4} (io), 6 P55/~{WKP5} (io), 7 P56/~{WKP6} (io), 8 P57/~{WKP7} (io), 9 P60 (io), 10 P61 (io), 11 P62 (io), 12 P63 (io), 13 P64 (io), 14 P65 (io), 15 P66 (io), 16 P67 (io), 17 P70 (io), 18 P71 (io), 19 P72 (io), 20 P73 (io), 21 P74 (io), 22 P75 (io), 23 P76 (io), 24 P77 (io), 25 P80 (io), 26 P81 (io), 27 P82 (io), 28 P83 (io), 29 P84 (io), 30 P85 (io), 31 P86 (io), 32 P87 (io), 33 PC0 (io), 34 PC1 (io), 35 PC2 (io), 36 PC3 (io), 37 PC4 (io), 38 PC5 (io), 39 PC6 (io), 40 PC7 (io), 41 PA0 (io), 42 PA1 (io), 43 PA2 (io), 44 PA3 (io), 50 P40/SCK31/TMIF (io), 51 P41/RXD31/IRRXD/TMOFL (io), 52 P42/TXD31/IRTXD/TMOFH (io), 53 PF0/TMIG (io), 54 PF1(/SCK31/~{IRQ4}) (io), 55 PF2(/RXD31/IRRXD) (io), 56 PF3(/TXD31/IRTXD) (io), 57 PE0/SCK33(/~{IRQ3}) (io), 58 PE1/RXD33 (io), 59 PE2/TXD33 (io), 60 PE3(/SCK32/~{IRQ1}) (io), 61 PE4(/RXD32) (io), 62 PE5(/TXD32) (io), 63 PE6/UD (io), 64 PE7/TMIC(/~{IRQ0}) (io), 65 TEST/~{ADTRG} (in), 67 PB7/AN7 (in), 68 PB6/AN6 (in), 69 PB5/AN5 (in), 70 PB4/AN4 (in), 71 PB3/AN3 (in), 72 PB2/AN2/~{IRQ3} (in), 73 PB1/AN1/~{IRQ1} (in), 74 PB0/AN0/~{IRQ0} (in), 76 IRQAEC (in), 77 P10/AEVH (io), 78 P11/AEVL (io), 79 P12/TIOCA1/TCLKA (io), 80 P13/TIOCB1/TCLKB (io), 81 P14/TIOCA2/TCLKC (io), 82 P15/TIOCB2 (io), 83 ~{NMI} (in), 84 X1 (in), 85 X2 (out), 86 ~{RES} (in), 87 OSC1 (in), 89 OSC2 (out), 91 P16/SCK4 (io), 92 P37/SO4 (io), 93 P36/SI4 (io), 94 P32/TXD32/SCL (io), 95 P31/RXD32/SDA (io), 96 P30/SCK32/TMOW/CLKOUT (io), 97 P90/PWM1 (io), 98 P91/PWM2 (io), 99 P92/~{IRQ4}/PWM3 (io), 100 P93/PWM4 (io)
part B pins: 45 VSS (power), 46 VSS (power), 47 VSS (power), 48 NC (power), 49 NC (power), 66 VSS/AVSS (power), 75 AVCC (power), 88 VSS (power), 90 VCC (power)

## HD64N3687GFP
designator U?
H8 Family 32/16-bit CISC, H8/300H Tiny, 56K ROM, 4K RAM, 1 to 10MHz, 3.0 to 5.5V, 64-Pin QFP; Published: 28-Aug-2009; DatasheetVersion: Rev.5.00, Nov-2005; PackageVersion: Sep-2005; PackageReference: PLQP0064KC-A; Publisher: Altium Limited; PackageDescription: 64-Pin Plastic Low Profile QFP, 10 x 10 x 1.45 mm Body, 0.5 mm Pitch; Code_JEITA: P-LQFP64-10x10-0.50; Code_IPC: SQFP50P1200X1200-64; ComponentLink1Description: Manufacturer Link; ComponentLink1URL: http://sg.renesas.com/fmwk.jsp?cnt=h8_family_landing.jsp&fp=/products/mpumcu/h8_family/; ComponentLink2Description: Datasheet; ComponentLink2URL: http://documentation.renesas.com/eng/products/mpumcu/rej09b0027_h83687.pdf; ComponentLink3Description: Packaging Specification; ComponentLink3URL: http://sg.renesas.com/media/products/common_info/package/pdf/ic/code/plqp0064kc_a.pdf
footprint PLQP0064KC-A_N (Shrink QFP, 64-Leads, Body 10x10mm, Pitch 0.5mm, IPC Medium Density)
footprint PLQP0064KC-A_L (Shrink QFP, 64-Leads, Body 10x10mm, Pitch 0.5mm, IPC High Density)
footprint PLQP0064KC-A_M (Shrink QFP, 64-Leads, Body 10x10mm, Pitch 0.5mm, IPC Low Density)
pins: 1 PB6/AN6 (in), 2 PB7/AN7 (in), 3 AVCC (power), 4 X2, 5 X1, 6 VCL (power), 7 ~{RES} (in), 8 ~{TEST} (in), 9 VSS (power), 10 OSC2 (out), 11 OSC1 (in), 12 VCC (power), 13 P50/~{WKP0} (io), 14 P51/~{WKP1} (io), 15 P34 (io), 16 P35 (io), 17 P36 (io), 18 P37 (io), 19 P52/~{WKP2} (io), 20 P53/~{WKP3} (io), 21 P54/~{WKP4} (io), 22 P55/~{WKP5}/~{ADTRG} (io), 23 P10/TMOW (io), 24 P11/PWM (io), 25 P12 (io), 26 P56/SDA (io), 27 P57/SCL (io), 28 P74/TMRIV (io), 29 P75/TMCIV (io), 30 P76/TMOV (io), 31 P24 (io), 32 P63/FTIOD0 (io), 33 P62/FTIOC0 (io), 34 P61/FTIOB0 (io), 35 ~{NMI} (in), 36 P60/FTIOA0 (io), 37 P64/FTIOA1 (io), 38 P65/FTIOB1 (io), 39 P66/FTIOC1 (io), 40 P67/FTIOD1 (io), 41 P85 (io), 42 P86 (io), 43 P87 (io), 44 P20/SCK3 (io), 45 P21/RXD (io), 46 P22/TXD (io), 47 P23 (io), 48 P70/SCK3_2 (io), 49 P71/RXD_2 (io), 50 P72/TXD_2 (io), 51 P14/~{IRQ0} (io), 52 P15/~{IRQ1}/TMIB1 (io), 53 P16/~{IRQ2} (io), 54 P17/~{IRQ3}/TRGV (io), 55 P33 (io), 56 P32 (io), 57 P31 (io), 58 P30 (io), 59 PB3/AN3 (in), 60 PB2/AN2 (in), 61 PB1/AN1 (in), 62 PB0/AN0 (in), 63 PB4/AN4 (in), 64 PB5/AN5 (in)

## HD64N3694GFP
designator U?
H8 Family 32/16-bit CISC, H8/300H Tiny, 32K ROM, 2K RAM, 1 to 10MHz, 3.0 to 5.5V, 64-Pin QFP; Published: 28-Aug-2009; DatasheetVersion: Rev.5.00, Nov-2005; PackageVersion: Sep-2005; PackageReference: PLQP0064KC-A; Publisher: Altium Limited; PackageDescription: 64-Pin Plastic Low Profile QFP, 10 x 10 x 1.45 mm Body, 0.5 mm Pitch; Supplier 1: Digi-Key; Supplier Part Number 1: HD64N3694GFP-ND; Code_JEITA: P-LQFP64-10x10-0.50; Code_IPC: SQFP50P1200X1200-64; ComponentLink1Description: Manufacturer Link; ComponentLink1URL: http://sg.renesas.com/fmwk.jsp?cnt=h8_family_landing.jsp&fp=/products/mpumcu/h8_family/; ComponentLink2Description: Datasheet; ComponentLink2URL: http://documentation.renesas.com/eng/products/mpumcu/rej09b0028_h83694.pdf; ComponentLink3Description: Packaging Specification; ComponentLink3URL: http://sg.renesas.com/media/products/common_info/package/pdf/ic/code/plqp0064kc_a.pdf
footprint PLQP0064KC-A_N (Shrink QFP, 64-Leads, Body 10x10mm, Pitch 0.5mm, IPC Medium Density)
footprint PLQP0064KC-A_L (Shrink QFP, 64-Leads, Body 10x10mm, Pitch 0.5mm, IPC High Density)
footprint PLQP0064KC-A_M (Shrink QFP, 64-Leads, Body 10x10mm, Pitch 0.5mm, IPC Low Density)
pins: 1 NC (in), 2 NC (in), 3 AVCC (power), 4 X2, 5 X1, 6 VCL (power), 7 ~{RES} (in), 8 ~{TEST} (in), 9 VSS (power), 10 OSC2 (out), 11 OSC1 (in), 12 VCC (power), 13 P50/~{WKP0} (io), 14 P51/~{WKP1} (io), 15 NC (io), 16 NC (io), 17 NC (io), 18 NC (io), 19 P52/~{WKP2} (io), 20 P53/~{WKP3} (io), 21 P54/~{WKP4} (io), 22 P55/~{WKP5}/~{ADTRG} (io), 23 P10/TMOW (io), 24 P11 (io), 25 P12 (io), 26 SDA (out), 27 SCL (out), 28 P74/TMRIV (io), 29 P75/TMCIV (io), 30 P76/TMOV (io), 31 NC (io), 32 NC (io), 33 NC (io), 34 NC (io), 35 ~{NMI} (in), 36 P80/FTCI (io), 37 P81/FTIOA (io), 38 P82/FTIOB (io), 39 P83/FTIOC (io), 40 P84/FTIOD (io), 41 P85 (io), 42 P86 (io), 43 P87 (io), 44 P20/SCK3 (io), 45 P21/RXD (io), 46 P22/TXD (io), 47 NC (io), 48 NC (io), 49 NC (io), 50 NC (io), 51 P14/~{IRQ0} (io), 52 P15/~{IRQ1} (io), 53 P16/~{IRQ2} (io), 54 P17/~{IRQ3}/TRGV (io), 55 PB4/AN4 (io), 56 PB5/AN5 (io), 57 PB6/AN6 (io), 58 PB7/AN7 (io), 59 PB3/AN3 (in), 60 PB2/AN2 (in), 61 PB1/AN1 (in), 62 PB0/AN0 (in), 63 NC (in), 64 NC (in)

## HD6413002F
designator U?
H8 Family 32/16-bit CISC, H8/300H, 512 RAM, 17MHz, 4.5 to 5.5V, 100-Pin QFP; Published: 28-Aug-2009; DatasheetVersion: Rev.1.00, Apr-2003; PackageVersion: Sep-2009; PackageReference: PRQP0100KA-A; Publisher: Altium Limited; PackageDescription: 100-Pin Plastic Quad Flat Pack, 14 x 14 x 2.7 mm Body, 0.5 mm Pitch; Code_JEITA: P-QFP100-14x14-0.50; ComponentLink1Description: Manufacturer Link; ComponentLink1URL: http://sg.renesas.com/fmwk.jsp?cnt=h8_family_landing.jsp&fp=/products/mpumcu/h8_family/; ComponentLink2Description: Datasheet; ComponentLink2URL: http://documentation.renesas.com/eng/products/mpumcu/e602066_h83002.pdf; ComponentLink3Description: Packaging Specification; ComponentLink3URL: http://sg.renesas.com/media/products/common_info/package/pdf/ic/code/prqp0100ka_a.pdf
footprint PRQP0100KA-A_N (Shrink QFP, 100-Leads, Body 14x14mm, Pitch 0.5mm, IPC Medium Density)
footprint PRQP0100KA-A_L (Shrink QFP, 100-Leads, Body 14x14mm, Pitch 0.5mm, IPC High Density)
footprint PRQP0100KA-A_M (Shrink QFP, 100-Leads, Body 14x14mm, Pitch 0.5mm, IPC Low Density)
pins: 1 VCC (power), 2 PB0/TP8/TIOCA3 (io), 3 PB1/TP9/TIOCB3 (io), 4 PB2/TP10/TIOCA4 (io), 5 PB3/TP11/TIOCB4 (io), 6 PB4/TP12/TOCXA4 (io), 7 PB5/TP13/TOCXB4 (io), 8 PB6/TP14/~{DREQ0} (io), 9 PB7/TP15/DREQ1/~{ADTRG} (io), 10 ~{RESO} (out), 11 VSS (power), 12 P90/TXD0 (io), 13 P91/TXD1 (io), 14 P92/RXD0 (io), 15 P93/RXD1 (io), 16 P94/SCK0/~{IRQ4} (io), 17 P95/SCK1/~{IRQ5} (io), 18 P40/D0 (io), 19 P41/D1 (io), 20 P42/D2 (io), 21 P43/D3 (io), 22 VSS (power), 23 P44/D4 (io), 24 P45/D5 (io), 25 P46/D6 (io), 26 P47/D7 (io), 27 D8 (io), 28 D9 (io), 29 D10 (io), 30 D11 (io), 31 D12 (io), 32 D13 (io), 33 D14 (io), 34 D15 (io), 35 VCC (power), 36 A0 (out), 37 A1 (out), 38 A2 (out), 39 A3 (out), 40 A4 (out), 41 A5 (out), 42 A6 (out), 43 A7 (out), 44 VSS (power), 45 A8 (out), 46 A9 (out), 47 A10 (out), 48 A11 (out), 49 A12 (out), 50 A13 (out), 51 A14 (out), 52 A15 (out), 53 A16 (out), 54 A17 (out), 55 A18 (out), 56 A19 (out), 57 VSS (power), 58 P60/~{WAIT} (io), 59 P61/~{BREQ} (io), 60 P62/~{BACK} (io), 61 Ø (out), 62 ~{STBY} (in), 63 ~{RES} (in), 64 NMI (in), 65 VSS (power), 66 EXTAL (in), 67 XTAL (in), 68 VCC (power), 69 ~{AS} (out), 70 ~{RD} (out), 71 ~{HWR} (out), 72 ~{LWR} (out), 73 MD0 (in), 74 MD1 (in), 75 MD2 (in), 76 AVCC (power), 77 VREF (power), 78 P70/AN0 (in), 79 P71/AN1 (in), 80 P72/AN2 (in), 81 P73/AN3 (in), 82 P74/AN4 (in), 83 P75/AN5 (in), 84 P76/AN6 (in), 85 P77/AN7 (in), 86 AVSS (power), 87 P80/~{RFSH}/~{IRQ0} (io), 88 P81/~{CS3}/~{IRQ1} (io), 89 P82/~{CS2}/~{IRQ2} (io), 90 P83/~{CS1}/~{IRQ3} (io), 91 P84/~{CS0} (io), 92 VSS (power), 93 PA0/TP0/~{TEND0}/TCLKA (io), 94 PA1/TP1/~{TEND1}/TCLKB (io), 95 PA2/TP2/TIOCA0/TCLKC (io), 96 PA3/TP3/TIOCB0/TCLKD (io), 97 PA4/TP4/TIOCA1/A23 (io), 98 PA5/TP5/TIOCB1/A22 (io), 99 PA6/TP6/TIOCA2/A21 (io), 100 PA7/TP7/TIOCB2/A20 (io)

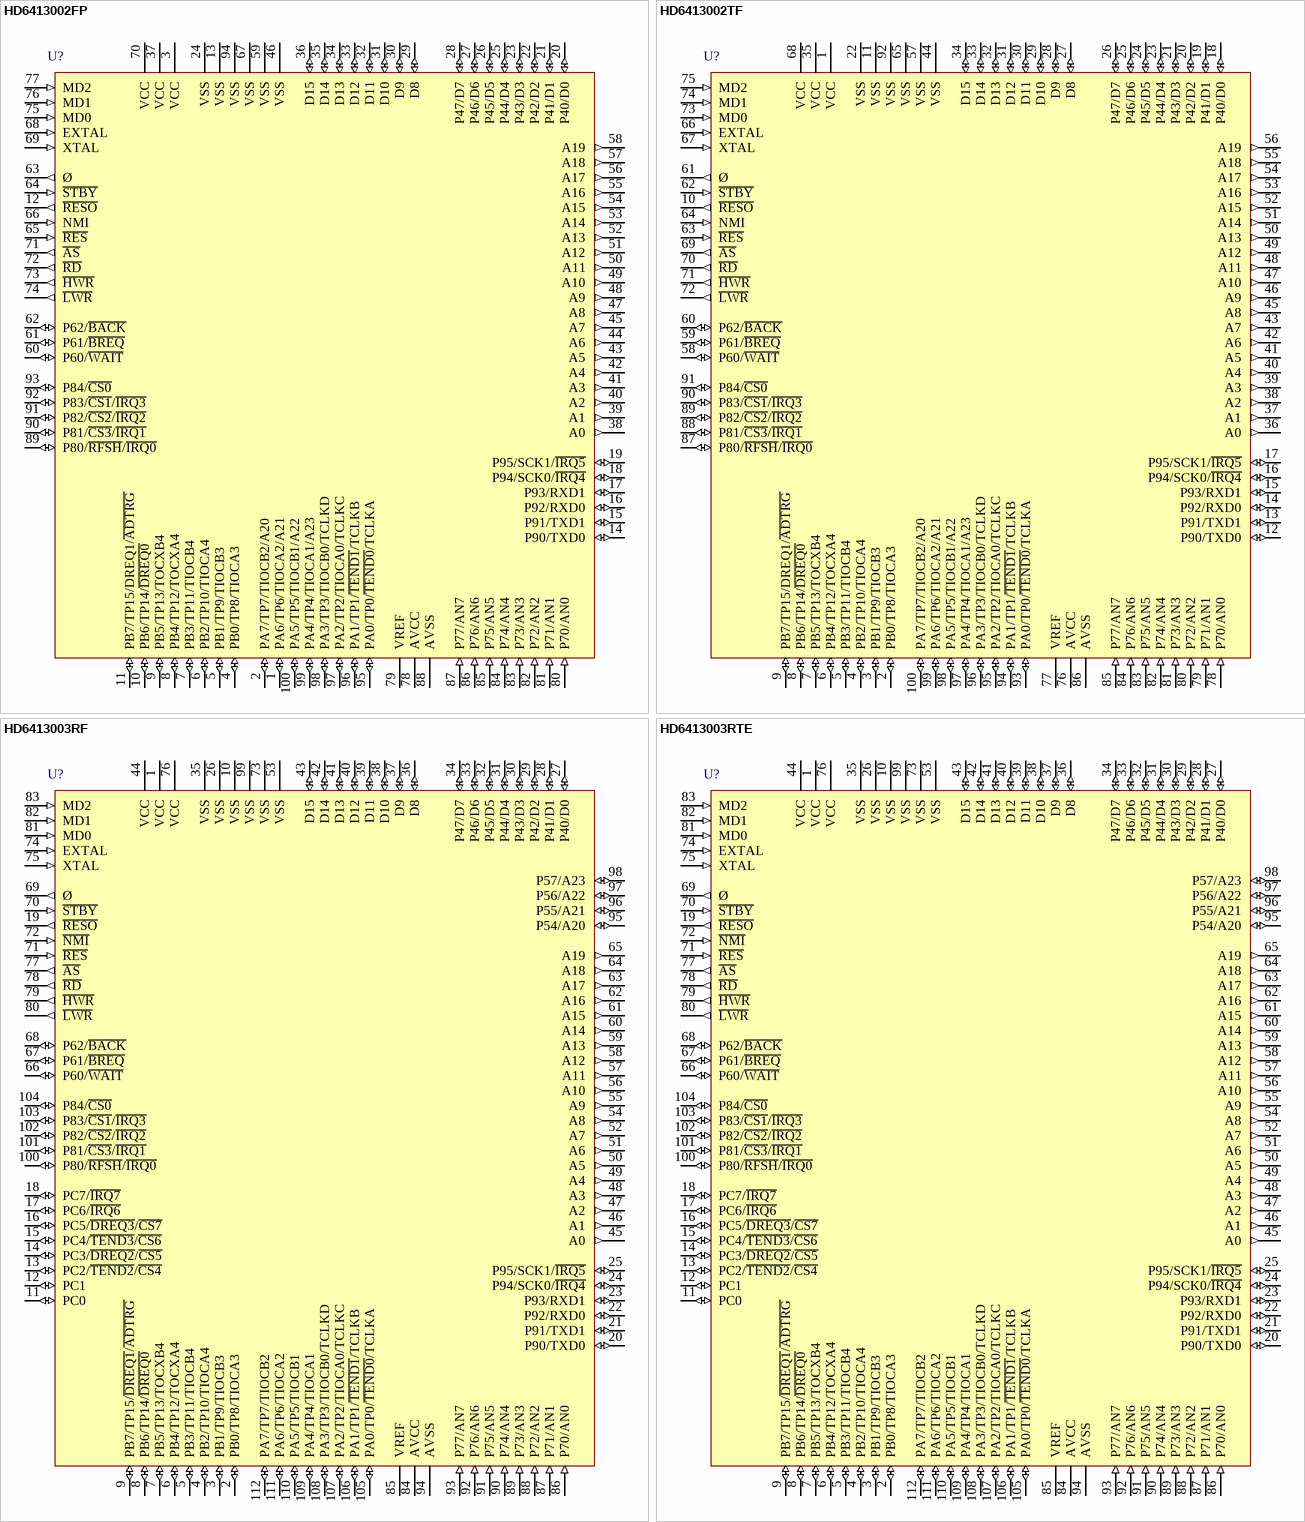
[diagram p31: symbols HD6413002FP to HD6413003RTE]

## HD6413002FP
designator U?
H8 Family 32/16-bit CISC, H8/300H, 512 RAM, 17MHz, 4.5 to 5.5V, 100-Pin QFP; Published: 28-Aug-2009; DatasheetVersion: Rev.1.00, Apr-2003; PackageVersion: Sep-2005; PackageReference: PRQP0100JE-B; Publisher: Altium Limited; PackageDescription: 100-Pin Plastic Quad Flat Pack, 20 x 14 x 2.7 mm Body, 0.65 mm Pitch; Code_JEITA: P-QFP100-14x20-0.65; ComponentLink1Description: Manufacturer Link; ComponentLink1URL: http://sg.renesas.com/fmwk.jsp?cnt=h8_family_landing.jsp&fp=/products/mpumcu/h8_family/; ComponentLink2Description: Datasheet; ComponentLink2URL: http://documentation.renesas.com/eng/products/mpumcu/e602066_h83002.pdf; ComponentLink3Description: Packaging Specification; ComponentLink3URL: http://sg.renesas.com/media/products/common_info/package/pdf/ic/code/prqp0100je_b.pdf
footprint PRQP0100JE-B_N (QFP, 100-Leads, Body 20x14mm, Pitch 0.65mm, IPC Medium Density)
footprint PRQP0100JE-B_L (QFP, 100-Leads, Body 20x14mm, Pitch 0.65mm, IPC High Density)
footprint PRQP0100JE-B_M (QFP, 100-Leads, Body 20x14mm, Pitch 0.65mm, IPC Low Density)
pins: 1 PA6/TP6/TIOCA2/A21 (io), 2 PA7/TP7/TIOCB2/A20 (io), 3 VCC (power), 4 PB0/TP8/TIOCA3 (io), 5 PB1/TP9/TIOCB3 (io), 6 PB2/TP10/TIOCA4 (io), 7 PB3/TP11/TIOCB4 (io), 8 PB4/TP12/TOCXA4 (io), 9 PB5/TP13/TOCXB4 (io), 10 PB6/TP14/~{DREQ0} (io), 11 PB7/TP15/DREQ1/~{ADTRG} (io), 12 ~{RESO} (out), 13 VSS (power), 14 P90/TXD0 (io), 15 P91/TXD1 (io), 16 P92/RXD0 (io), 17 P93/RXD1 (io), 18 P94/SCK0/~{IRQ4} (io), 19 P95/SCK1/~{IRQ5} (io), 20 P40/D0 (io), 21 P41/D1 (io), 22 P42/D2 (io), 23 P43/D3 (io), 24 VSS (power), 25 P44/D4 (io), 26 P45/D5 (io), 27 P46/D6 (io), 28 P47/D7 (io), 29 D8 (io), 30 D9 (io), 31 D10 (io), 32 D11 (io), 33 D12 (io), 34 D13 (io), 35 D14 (io), 36 D15 (io), 37 VCC (power), 38 A0 (out), 39 A1 (out), 40 A2 (out), 41 A3 (out), 42 A4 (out), 43 A5 (out), 44 A6 (out), 45 A7 (out), 46 VSS (power), 47 A8 (out), 48 A9 (out), 49 A10 (out), 50 A11 (out), 51 A12 (out), 52 A13 (out), 53 A14 (out), 54 A15 (out), 55 A16 (out), 56 A17 (out), 57 A18 (out), 58 A19 (out), 59 VSS (power), 60 P60/~{WAIT} (io), 61 P61/~{BREQ} (io), 62 P62/~{BACK} (io), 63 Ø (out), 64 ~{STBY} (in), 65 ~{RES} (in), 66 NMI (in), 67 VSS (power), 68 EXTAL (in), 69 XTAL (in), 70 VCC (power), 71 ~{AS} (out), 72 ~{RD} (out), 73 ~{HWR} (out), 74 ~{LWR} (out), 75 MD0 (in), 76 MD1 (in), 77 MD2 (in), 78 AVCC (power), 79 VREF (power), 80 P70/AN0 (in), 81 P71/AN1 (in), 82 P72/AN2 (in), 83 P73/AN3 (in), 84 P74/AN4 (in), 85 P75/AN5 (in), 86 P76/AN6 (in), 87 P77/AN7 (in), 88 AVSS (power), 89 P80/~{RFSH}/~{IRQ0} (io), 90 P81/~{CS3}/~{IRQ1} (io), 91 P82/~{CS2}/~{IRQ2} (io), 92 P83/~{CS1}/~{IRQ3} (io), 93 P84/~{CS0} (io), 94 VSS (power), 95 PA0/TP0/~{TEND0}/TCLKA (io), 96 PA1/TP1/~{TEND1}/TCLKB (io), 97 PA2/TP2/TIOCA0/TCLKC (io), 98 PA3/TP3/TIOCB0/TCLKD (io), 99 PA4/TP4/TIOCA1/A23 (io), 100 PA5/TP5/TIOCB1/A22 (io)

## HD6413002TF
designator U?
H8 Family 32/16-bit CISC, H8/300H, 512 RAM, 17MHz, 4.5 to 5.5V, 100-Pin QFP; Published: 28-Aug-2009; DatasheetVersion: Rev.1.00, Apr-2003; PackageVersion: Sep-2005; PackageReference: PTQP0100KA-A; Publisher: Altium Limited; PackageDescription: 100-Pin Plastic Thin Quad Flat Pack, 14 x 14 x 1.0 mm Body, 0.5 mm Pitch; Code_JEITA: P-TQFP100-14x14-0.50; ComponentLink1Description: Manufacturer Link; ComponentLink1URL: http://sg.renesas.com/fmwk.jsp?cnt=h8_family_landing.jsp&fp=/products/mpumcu/h8_family/; ComponentLink2Description: Datasheet; ComponentLink2URL: http://documentation.renesas.com/eng/products/mpumcu/e602066_h83002.pdf; ComponentLink3Description: Packaging Specification; ComponentLink3URL: http://sg.renesas.com/media/products/common_info/package/pdf/ic/code/ptqp0100ka_a.pdf
footprint PTQP0100KA-A_N (Thin QFP, 100-Leads, Body 14x14mm, Pitch 0.5mm, IPC Medium Density)
footprint PTQP0100KA-A_L (Thin QFP, 100-Leads, Body 14x14mm, Pitch 0.5mm, IPC High Density)
footprint PTQP0100KA-A_M (Thin QFP, 100-Leads, Body 14x14mm, Pitch 0.5mm, IPC Low Density)
pins: 1 VCC (power), 2 PB0/TP8/TIOCA3 (io), 3 PB1/TP9/TIOCB3 (io), 4 PB2/TP10/TIOCA4 (io), 5 PB3/TP11/TIOCB4 (io), 6 PB4/TP12/TOCXA4 (io), 7 PB5/TP13/TOCXB4 (io), 8 PB6/TP14/~{DREQ0} (io), 9 PB7/TP15/DREQ1/~{ADTRG} (io), 10 ~{RESO} (out), 11 VSS (power), 12 P90/TXD0 (io), 13 P91/TXD1 (io), 14 P92/RXD0 (io), 15 P93/RXD1 (io), 16 P94/SCK0/~{IRQ4} (io), 17 P95/SCK1/~{IRQ5} (io), 18 P40/D0 (io), 19 P41/D1 (io), 20 P42/D2 (io), 21 P43/D3 (io), 22 VSS (power), 23 P44/D4 (io), 24 P45/D5 (io), 25 P46/D6 (io), 26 P47/D7 (io), 27 D8 (io), 28 D9 (io), 29 D10 (io), 30 D11 (io), 31 D12 (io), 32 D13 (io), 33 D14 (io), 34 D15 (io), 35 VCC (power), 36 A0 (out), 37 A1 (out), 38 A2 (out), 39 A3 (out), 40 A4 (out), 41 A5 (out), 42 A6 (out), 43 A7 (out), 44 VSS (power), 45 A8 (out), 46 A9 (out), 47 A10 (out), 48 A11 (out), 49 A12 (out), 50 A13 (out), 51 A14 (out), 52 A15 (out), 53 A16 (out), 54 A17 (out), 55 A18 (out), 56 A19 (out), 57 VSS (power), 58 P60/~{WAIT} (io), 59 P61/~{BREQ} (io), 60 P62/~{BACK} (io), 61 Ø (out), 62 ~{STBY} (in), 63 ~{RES} (in), 64 NMI (in), 65 VSS (power), 66 EXTAL (in), 67 XTAL (in), 68 VCC (power), 69 ~{AS} (out), 70 ~{RD} (out), 71 ~{HWR} (out), 72 ~{LWR} (out), 73 MD0 (in), 74 MD1 (in), 75 MD2 (in), 76 AVCC (power), 77 VREF (power), 78 P70/AN0 (in), 79 P71/AN1 (in), 80 P72/AN2 (in), 81 P73/AN3 (in), 82 P74/AN4 (in), 83 P75/AN5 (in), 84 P76/AN6 (in), 85 P77/AN7 (in), 86 AVSS (power), 87 P80/~{RFSH}/~{IRQ0} (io), 88 P81/~{CS3}/~{IRQ1} (io), 89 P82/~{CS2}/~{IRQ2} (io), 90 P83/~{CS1}/~{IRQ3} (io), 91 P84/~{CS0} (io), 92 VSS (power), 93 PA0/TP0/~{TEND0}/TCLKA (io), 94 PA1/TP1/~{TEND1}/TCLKB (io), 95 PA2/TP2/TIOCA0/TCLKC (io), 96 PA3/TP3/TIOCB0/TCLKD (io), 97 PA4/TP4/TIOCA1/A23 (io), 98 PA5/TP5/TIOCB1/A22 (io), 99 PA6/TP6/TIOCA2/A21 (io), 100 PA7/TP7/TIOCB2/A20 (io)

## HD6413003RF
designator U?
H8 Family 32/16-bit CISC, H8/300H, 512 RAM, 16MHz, 4.5 to 5.5V, 112-Pin QFP; Published: 28-Aug-2009; DatasheetVersion: Rev.2.00, Apr-2003; PackageVersion: Sep-2005; PackageReference: PRQP0112JA-A; Publisher: Altium Limited; PackageDescription: 112-Pin Plastic Quad Flat Pack, 20 x 20 x 2.7 mm Body, 0.65 mm Pitch; Code_JEITA: P-QFP112-20x20-0.65; ComponentLink1Description: Manufacturer Link; ComponentLink1URL: http://sg.renesas.com/fmwk.jsp?cnt=h8_family_landing.jsp&fp=/products/mpumcu/h8_family/; ComponentLink2Description: Datasheet; ComponentLink2URL: http://documentation.renesas.com/eng/products/mpumcu/e602055_h83003.pdf; ComponentLink3Description: Packaging Specification; ComponentLink3URL: http://sg.renesas.com/media/products/common_info/package/pdf/ic/code/prqp0112ja_a.pdf
footprint PRQP0112JA-A_N (QFP, 112-Leads, Body 20x20mm, Pitch 0.65mm, IPC Medium Density)
footprint PRQP0112JA-A_L (QFP, 112-Leads, Body 20x20mm, Pitch 0.65mm, IPC High Density)
footprint PRQP0112JA-A_M (QFP, 112-Leads, Body 20x20mm, Pitch 0.65mm, IPC Low Density)
pins: 1 VCC (power), 2 PB0/TP8/TIOCA3 (io), 3 PB1/TP9/TIOCB3 (io), 4 PB2/TP10/TIOCA4 (io), 5 PB3/TP11/TIOCB4 (io), 6 PB4/TP12/TOCXA4 (io), 7 PB5/TP13/TOCXB4 (io), 8 PB6/TP14/~{DREQ0} (io), 9 PB7/TP15/~{DREQ1}/~{ADTRG} (io), 10 VSS (power), 11 PC0 (io), 12 PC1 (io), 13 PC2/~{TEND2}/~{CS4} (io), 14 PC3/~{DREQ2}/~{CS5} (io), 15 PC4/~{TEND3}/~{CS6} (io), 16 PC5/~{DREQ3}/~{CS7} (io), 17 PC6/~{IRQ6} (io), 18 PC7/~{IRQ7} (io), 19 ~{RESO} (out), 20 P90/TXD0 (io), 21 P91/TXD1 (io), 22 P92/RXD0 (io), 23 P93/RXD1 (io), 24 P94/SCK0/~{IRQ4} (io), 25 P95/SCK1/~{IRQ5} (io), 26 VSS (power), 27 P40/D0 (io), 28 P41/D1 (io), 29 P42/D2 (io), 30 P43/D3 (io), 31 P44/D4 (io), 32 P45/D5 (io), 33 P46/D6 (io), 34 P47/D7 (io), 35 VSS (power), 36 D8 (io), 37 D9 (io), 38 D10 (io), 39 D11 (io), 40 D12 (io), 41 D13 (io), 42 D14 (io), 43 D15 (io), 44 VCC (power), 45 A0 (out), 46 A1 (out), 47 A2 (out), 48 A3 (out), 49 A4 (out), 50 A5 (out), 51 A6 (out), 52 A7 (out), 53 VSS (power), 54 A8 (out), 55 A9 (out), 56 A10 (out), 57 A11 (out), 58 A12 (out), 59 A13 (out), 60 A14 (out), 61 A15 (out), 62 A16 (out), 63 A17 (out), 64 A18 (out), 65 A19 (out), 66 P60/~{WAIT} (io), 67 P61/~{BREQ} (io), 68 P62/~{BACK} (io), 69 Ø (out), 70 ~{STBY} (in), 71 ~{RES} (in), 72 ~{NMI} (in), 73 VSS (power), 74 EXTAL (in), 75 XTAL (in), 76 VCC (power), 77 ~{AS} (out), 78 ~{RD} (out), 79 ~{HWR} (out), 80 ~{LWR} (out), 81 MD0 (in), 82 MD1 (in), 83 MD2 (in), 84 AVCC (power), 85 VREF (power), 86 P70/AN0 (in), 87 P71/AN1 (in), 88 P72/AN2 (in), 89 P73/AN3 (in), 90 P74/AN4 (in), 91 P75/AN5 (in), 92 P76/AN6 (in), 93 P77/AN7 (in), 94 AVSS (power), 95 P54/A20 (io), 96 P55/A21 (io), 97 P56/A22 (io), 98 P57/A23 (io), 99 VSS (power), 100 P80/~{RFSH}/~{IRQ0} (io), 101 P81/~{CS3}/~{IRQ1} (io), 102 P82/~{CS2}/~{IRQ2} (io), 103 P83/~{CS1}/~{IRQ3} (io), 104 P84/~{CS0} (io), 105 PA0/TP0/~{TEND0}/TCLKA (io), 106 PA1/TP1/~{TEND1}/TCLKB (io), 107 PA2/TP2/TIOCA0/TCLKC (io), 108 PA3/TP3/TIOCB0/TCLKD (io), 109 PA4/TP4/TIOCA1 (io), 110 PA5/TP5/TIOCB1 (io), 111 PA6/TP6/TIOCA2 (io), 112 PA7/TP7/TIOCB2 (io)

## HD6413003RTE
designator U?
H8 Family 32/16-bit CISC, H8/300H, 512 RAM, 16MHz, 4.5 to 5.5V, 120-Pin QFP; Published: 28-Aug-2009; DatasheetVersion: Rev.2.00, Apr-2003; PackageVersion: Sep-2005; PackageReference: PTQP0120LA-A; Publisher: Altium Limited; PackageDescription: 120-Pin Plastic Thin QFP, 14 x 14 x 1.0 mm Body, 0.4 mm Pitch; Code_JEITA: P-TQFP120-14x14-0.40; ComponentLink1Description: Manufacturer Link; ComponentLink1URL: http://sg.renesas.com/fmwk.jsp?cnt=h8_family_landing.jsp&fp=/products/mpumcu/h8_family/; ComponentLink2Description: Datasheet; ComponentLink2URL: http://documentation.renesas.com/eng/products/mpumcu/e602055_h83003.pdf; ComponentLink3Description: Packaging Specification; ComponentLink3URL: http://sg.renesas.com/media/products/common_info/package/pdf/ic/code/ptqp0120la_a.pdf
footprint PTQP0120LA-A_N (Thin QFP, 120-Leads, Body 14x14mm, Pitch 0.4mm, IPC Medium Density)
footprint PTQP0120LA-A_L (Thin QFP, 120-Leads, Body 14x14mm, Pitch 0.4mm, IPC High Density)
footprint PTQP0120LA-A_M (Thin QFP, 120-Leads, Body 14x14mm, Pitch 0.4mm, IPC Low Density)
pins: 1 VCC (power), 2 PB0/TP8/TIOCA3 (io), 3 PB1/TP9/TIOCB3 (io), 4 PB2/TP10/TIOCA4 (io), 5 PB3/TP11/TIOCB4 (io), 6 PB4/TP12/TOCXA4 (io), 7 PB5/TP13/TOCXB4 (io), 8 PB6/TP14/~{DREQ0} (io), 9 PB7/TP15/~{DREQ1}/~{ADTRG} (io), 10 VSS (power), 11 PC0 (io), 12 PC1 (io), 13 PC2/~{TEND2}/~{CS4} (io), 14 PC3/~{DREQ2}/~{CS5} (io), 15 PC4/~{TEND3}/~{CS6} (io), 16 PC5/~{DREQ3}/~{CS7} (io), 17 PC6/~{IRQ6} (io), 18 PC7/~{IRQ7} (io), 19 ~{RESO} (out), 20 P90/TXD0 (io), 21 P91/TXD1 (io), 22 P92/RXD0 (io), 23 P93/RXD1 (io), 24 P94/SCK0/~{IRQ4} (io), 25 P95/SCK1/~{IRQ5} (io), 26 VSS (power), 27 P40/D0 (io), 28 P41/D1 (io), 29 P42/D2 (io), 30 P43/D3 (io), 31 P44/D4 (io), 32 P45/D5 (io), 33 P46/D6 (io), 34 P47/D7 (io), 35 VSS (power), 36 D8 (io), 37 D9 (io), 38 D10 (io), 39 D11 (io), 40 D12 (io), 41 D13 (io), 42 D14 (io), 43 D15 (io), 44 VCC (power), 45 A0 (out), 46 A1 (out), 47 A2 (out), 48 A3 (out), 49 A4 (out), 50 A5 (out), 51 A6 (out), 52 A7 (out), 53 VSS (power), 54 A8 (out), 55 A9 (out), 56 A10 (out), 57 A11 (out), 58 A12 (out), 59 A13 (out), 60 A14 (out), 61 A15 (out), 62 A16 (out), 63 A17 (out), 64 A18 (out), 65 A19 (out), 66 P60/~{WAIT} (io), 67 P61/~{BREQ} (io), 68 P62/~{BACK} (io), 69 Ø (out), 70 ~{STBY} (in), 71 ~{RES} (in), 72 ~{NMI} (in), 73 VSS (power), 74 EXTAL (in), 75 XTAL (in), 76 VCC (power), 77 ~{AS} (out), 78 ~{RD} (out), 79 ~{HWR} (out), 80 ~{LWR} (out), 81 MD0 (in), 82 MD1 (in), 83 MD2 (in), 84 AVCC (power), 85 VREF (power), 86 P70/AN0 (in), 87 P71/AN1 (in), 88 P72/AN2 (in), 89 P73/AN3 (in), 90 P74/AN4 (in), 91 P75/AN5 (in), 92 P76/AN6 (in), 93 P77/AN7 (in), 94 AVSS (power), 95 P54/A20 (io), 96 P55/A21 (io), 97 P56/A22 (io), 98 P57/A23 (io), 99 VSS (power), 100 P80/~{RFSH}/~{IRQ0} (io), 101 P81/~{CS3}/~{IRQ1} (io), 102 P82/~{CS2}/~{IRQ2} (io), 103 P83/~{CS1}/~{IRQ3} (io), 104 P84/~{CS0} (io), 105 PA0/TP0/~{TEND0}/TCLKA (io), 106 PA1/TP1/~{TEND1}/TCLKB (io), 107 PA2/TP2/TIOCA0/TCLKC (io), 108 PA3/TP3/TIOCB0/TCLKD (io), 109 PA4/TP4/TIOCA1 (io), 110 PA5/TP5/TIOCB1 (io), 111 PA6/TP6/TIOCA2 (io), 112 PA7/TP7/TIOCB2 (io)

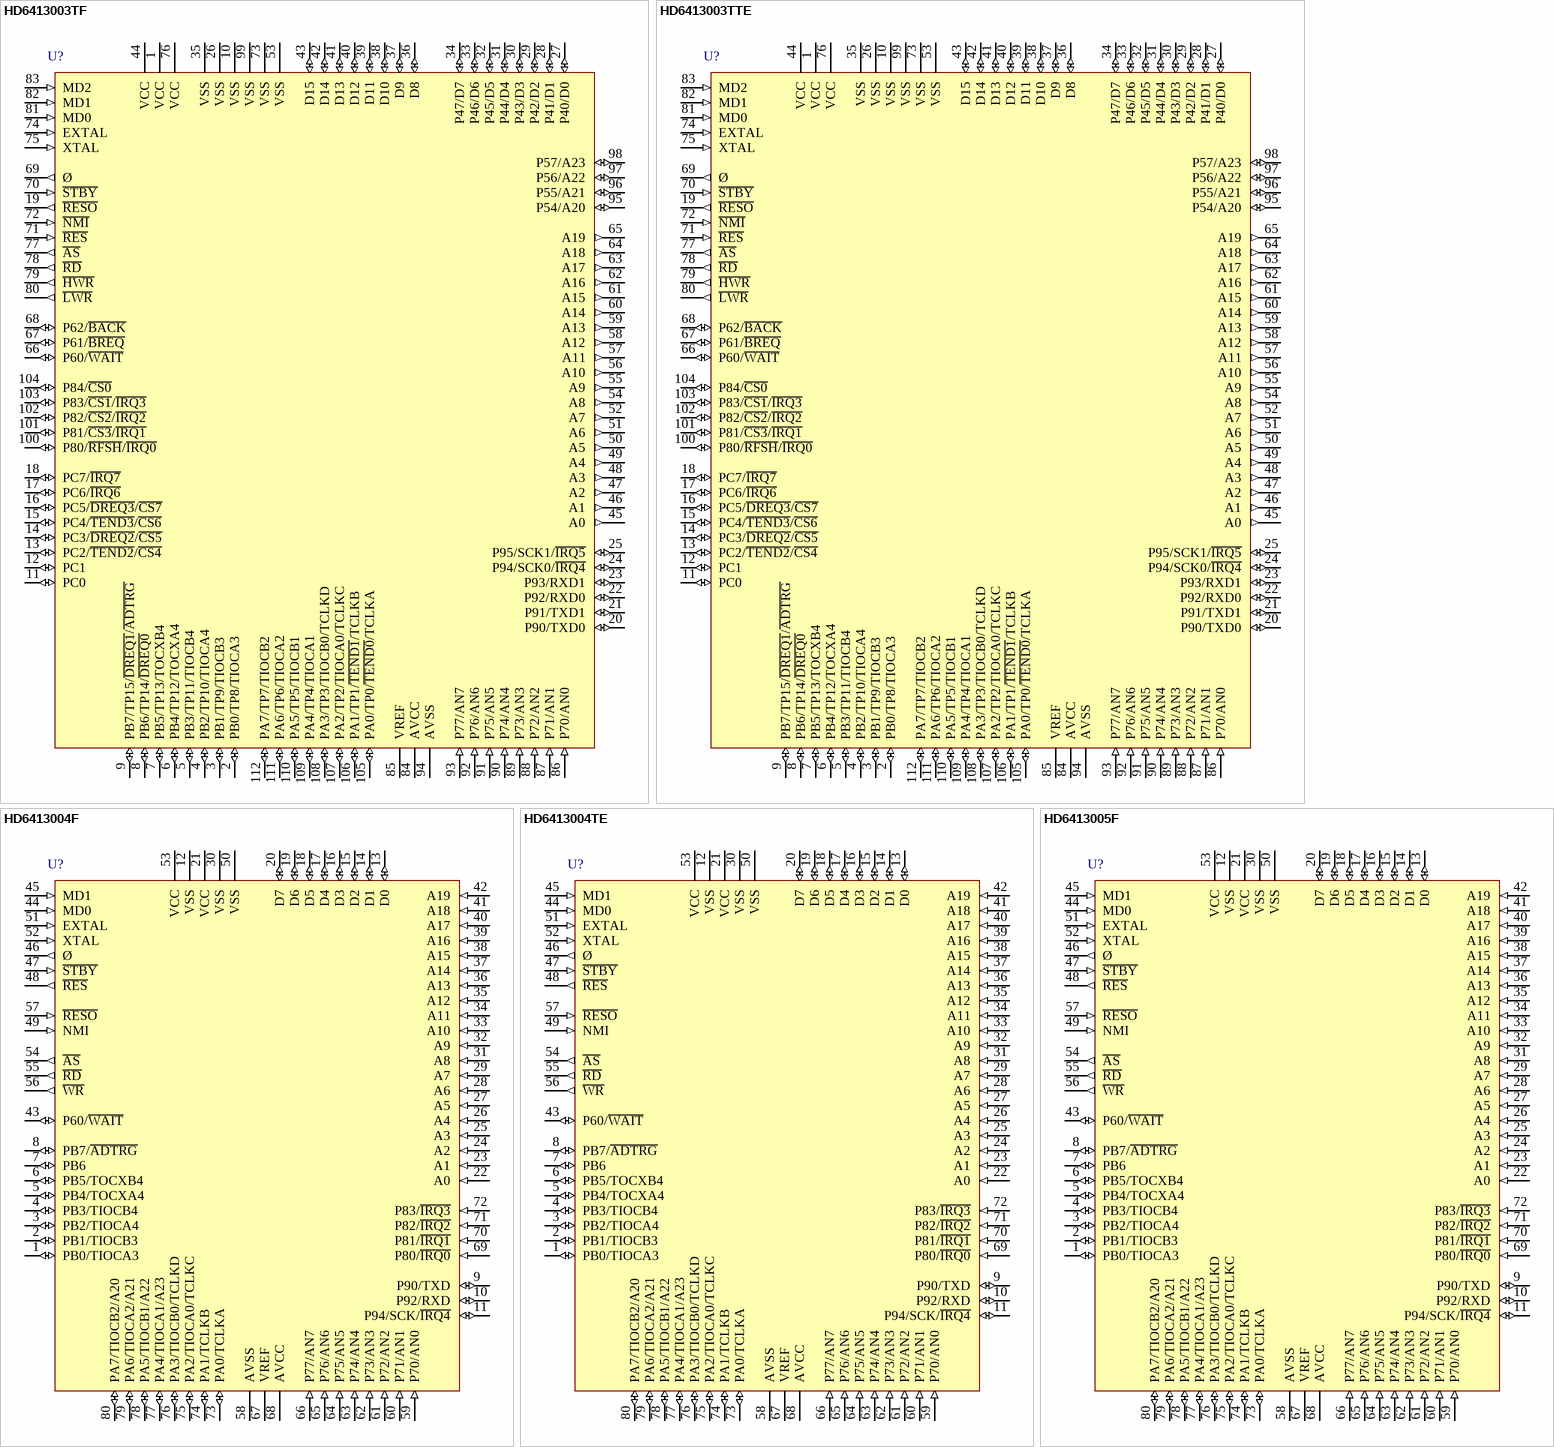
[diagram p32: symbols HD6413003TF to HD6413005F]

## HD6413003TF
designator U?
H8 Family 32/16-bit CISC, H8/300H, 512 RAM, 16MHz, 4.5 to 5.5V, 112-Pin QFP; Published: 28-Aug-2009; DatasheetVersion: Rev.2.00, Apr-2003; PackageVersion: Sep-2005; PackageReference: PRQP0112JA-A; Publisher: Altium Limited; PackageDescription: 112-Pin Plastic Quad Flat Pack, 20 x 20 x 2.7 mm Body, 0.65 mm Pitch; Code_JEITA: P-QFP112-20x20-0.65; ComponentLink1Description: Manufacturer Link; ComponentLink1URL: http://sg.renesas.com/fmwk.jsp?cnt=h8_family_landing.jsp&fp=/products/mpumcu/h8_family/; ComponentLink2Description: Datasheet; ComponentLink2URL: http://documentation.renesas.com/eng/products/mpumcu/e602055_h83003.pdf; ComponentLink3Description: Packaging Specification; ComponentLink3URL: http://sg.renesas.com/media/products/common_info/package/pdf/ic/code/prqp0112ja_a.pdf
footprint PRQP0112JA-A_N (QFP, 112-Leads, Body 20x20mm, Pitch 0.65mm, IPC Medium Density)
footprint PRQP0112JA-A_L (QFP, 112-Leads, Body 20x20mm, Pitch 0.65mm, IPC High Density)
footprint PRQP0112JA-A_M (QFP, 112-Leads, Body 20x20mm, Pitch 0.65mm, IPC Low Density)
pins: 1 VCC (power), 2 PB0/TP8/TIOCA3 (io), 3 PB1/TP9/TIOCB3 (io), 4 PB2/TP10/TIOCA4 (io), 5 PB3/TP11/TIOCB4 (io), 6 PB4/TP12/TOCXA4 (io), 7 PB5/TP13/TOCXB4 (io), 8 PB6/TP14/~{DREQ0} (io), 9 PB7/TP15/~{DREQ1}/~{ADTRG} (io), 10 VSS (power), 11 PC0 (io), 12 PC1 (io), 13 PC2/~{TEND2}/~{CS4} (io), 14 PC3/~{DREQ2}/~{CS5} (io), 15 PC4/~{TEND3}/~{CS6} (io), 16 PC5/~{DREQ3}/~{CS7} (io), 17 PC6/~{IRQ6} (io), 18 PC7/~{IRQ7} (io), 19 ~{RESO} (out), 20 P90/TXD0 (io), 21 P91/TXD1 (io), 22 P92/RXD0 (io), 23 P93/RXD1 (io), 24 P94/SCK0/~{IRQ4} (io), 25 P95/SCK1/~{IRQ5} (io), 26 VSS (power), 27 P40/D0 (io), 28 P41/D1 (io), 29 P42/D2 (io), 30 P43/D3 (io), 31 P44/D4 (io), 32 P45/D5 (io), 33 P46/D6 (io), 34 P47/D7 (io), 35 VSS (power), 36 D8 (io), 37 D9 (io), 38 D10 (io), 39 D11 (io), 40 D12 (io), 41 D13 (io), 42 D14 (io), 43 D15 (io), 44 VCC (power), 45 A0 (out), 46 A1 (out), 47 A2 (out), 48 A3 (out), 49 A4 (out), 50 A5 (out), 51 A6 (out), 52 A7 (out), 53 VSS (power), 54 A8 (out), 55 A9 (out), 56 A10 (out), 57 A11 (out), 58 A12 (out), 59 A13 (out), 60 A14 (out), 61 A15 (out), 62 A16 (out), 63 A17 (out), 64 A18 (out), 65 A19 (out), 66 P60/~{WAIT} (io), 67 P61/~{BREQ} (io), 68 P62/~{BACK} (io), 69 Ø (out), 70 ~{STBY} (in), 71 ~{RES} (in), 72 ~{NMI} (in), 73 VSS (power), 74 EXTAL (in), 75 XTAL (in), 76 VCC (power), 77 ~{AS} (out), 78 ~{RD} (out), 79 ~{HWR} (out), 80 ~{LWR} (out), 81 MD0 (in), 82 MD1 (in), 83 MD2 (in), 84 AVCC (power), 85 VREF (power), 86 P70/AN0 (in), 87 P71/AN1 (in), 88 P72/AN2 (in), 89 P73/AN3 (in), 90 P74/AN4 (in), 91 P75/AN5 (in), 92 P76/AN6 (in), 93 P77/AN7 (in), 94 AVSS (power), 95 P54/A20 (io), 96 P55/A21 (io), 97 P56/A22 (io), 98 P57/A23 (io), 99 VSS (power), 100 P80/~{RFSH}/~{IRQ0} (io), 101 P81/~{CS3}/~{IRQ1} (io), 102 P82/~{CS2}/~{IRQ2} (io), 103 P83/~{CS1}/~{IRQ3} (io), 104 P84/~{CS0} (io), 105 PA0/TP0/~{TEND0}/TCLKA (io), 106 PA1/TP1/~{TEND1}/TCLKB (io), 107 PA2/TP2/TIOCA0/TCLKC (io), 108 PA3/TP3/TIOCB0/TCLKD (io), 109 PA4/TP4/TIOCA1 (io), 110 PA5/TP5/TIOCB1 (io), 111 PA6/TP6/TIOCA2 (io), 112 PA7/TP7/TIOCB2 (io)